# Altium schematic symbol library KipoAlt.SchLib: 644 symbols (part 3 of 4)
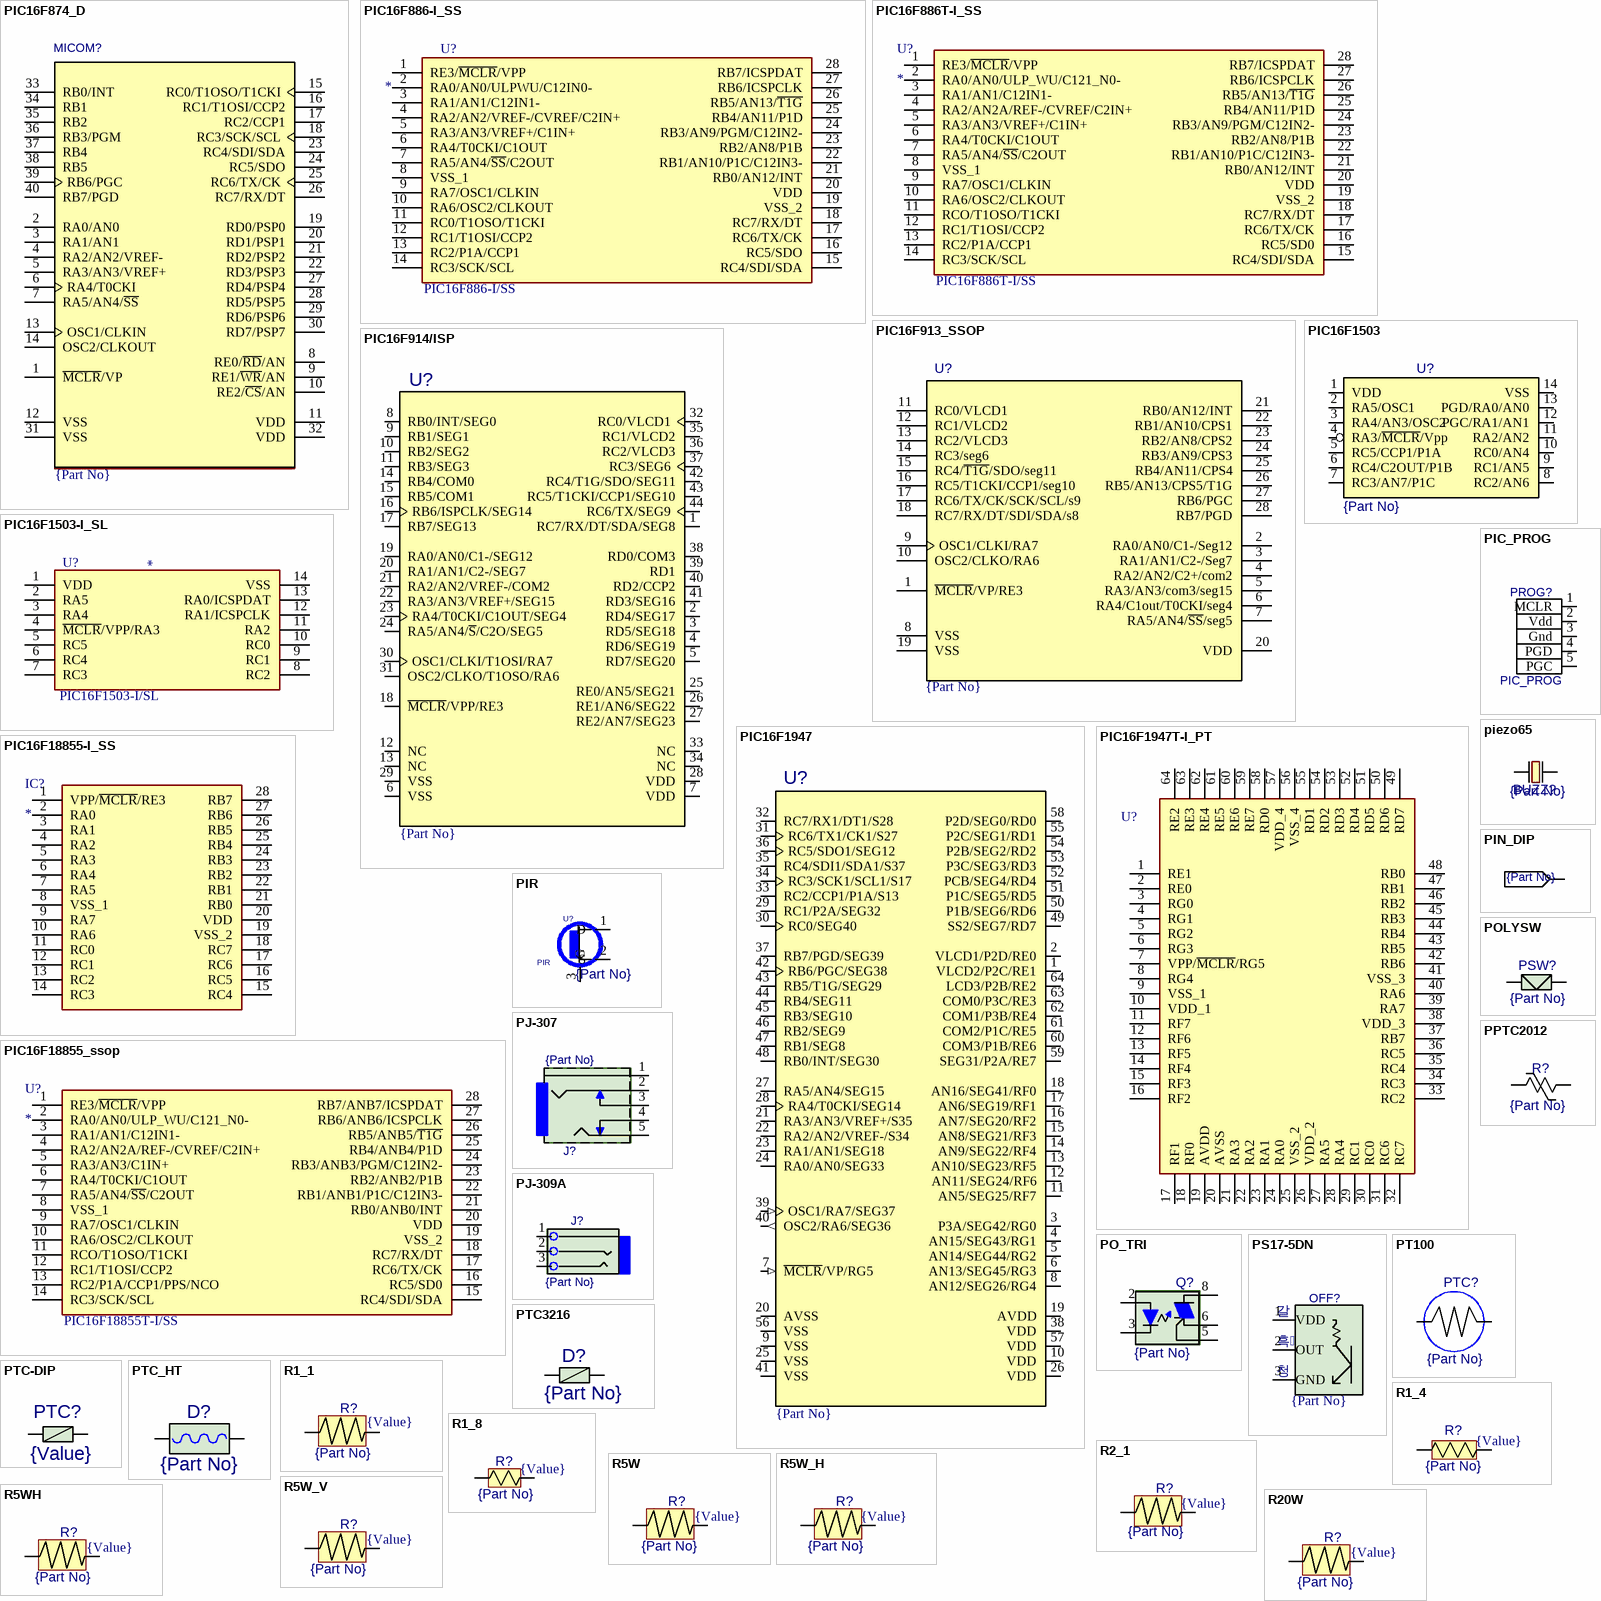
[diagram p20: symbols PIC16F874_D to R20W]

## PIC16F886-I_SS
designator U?  Part No.: PIC16F886-I/SS
Integrated Circuit; Manufacturer_Name: Microchip; Datasheet Link: https://eu.mouser.com/datasheet/2/268/40001291H-1066601.pdf; Height: 2mm; Mouser Part Number: 579-PIC16F886-I/SS; Mouser Price/Stock: https://www.mouser.co.uk/ProductDetail/Microchip-Technology/PIC16F886-I-SS?qs=tfKlksTaHW%2FCP4ez5eR96g%3D%3D; Arrow Part Number: PIC16F886-I/SS; Arrow Price/Stock: https://www.arrow.com/en/products/pic16f886-iss/microchip-technology?region=europe; Price: {Price}
footprint SSOP28
pins: 1 RE3/~{MCLR}/VPP, 2 RA0/AN0/ULPWU/C12IN0-, 3 RA1/AN1/C12IN1-, 4 RA2/AN2/VREF-/CVREF/C2IN+, 5 RA3/AN3/VREF+/C1IN+, 6 RA4/T0CKI/C1OUT, 7 RA5/AN4/~{SS}/C2OUT, 8 VSS_1, 9 RA7/OSC1/CLKIN, 10 RA6/OSC2/CLKOUT, 11 RC0/T1OSO/T1CKI, 12 RC1/T1OSI/CCP2, 13 RC2/P1A/CCP1, 14 RC3/SCK/SCL, 15 RC4/SDI/SDA, 16 RC5/SDO, 17 RC6/TX/CK, 18 RC7/RX/DT, 19 VSS_2, 20 VDD, 21 RB0/AN12/INT, 22 RB1/AN10/P1C/C12IN3-, 23 RB2/AN8/P1B, 24 RB3/AN9/PGM/C12IN2-, 25 RB4/AN11/P1D, 26 RB5/AN13/~{T1G}, 27 RB6/ICSPCLK, 28 RB7/ICSPDAT

## PIC16F886T-I_SS
designator U?  Part No.: PIC16F886T-I/SS
Integrated Circuit; Manufacturer_Name: Microchip; Datasheet Link: http://ww1.microchip.com/downloads/en/DeviceDoc/40001291H.pdf; Height: 2mm; Mouser Part Number: 579-PIC16F886T-I/SS; Mouser Price/Stock: https://www.mouser.co.uk/ProductDetail/Microchip-Technology/PIC16F886T-I-SS?qs=tfKlksTaHW%252BTLLXH%2Fb%2FN2g%3D%3D; Arrow Part Number: PIC16F886T-I/SS; Arrow Price/Stock: https://www.arrow.com/en/products/pic16f886t-iss/microchip-technology?region=nac; Price: {Price}
footprint SOP-28N
pins: 1 RE3/~{MCLR}/VPP, 2 RA0/AN0/ULP_WU/C121_N0-, 3 RA1/AN1/C12IN1-, 4 RA2/AN2A/REF-/CVREF/C2IN+, 5 RA3/AN3/VREF+/C1IN+, 6 RA4/T0CKI/C1OUT, 7 RA5/AN4/~{SS}/C2OUT, 8 VSS_1, 9 RA7/OSC1/CLKIN, 10 RA6/OSC2/CLKOUT, 11 RCO/T1OSO/T1CKI, 12 RC1/T1OSI/CCP2, 13 RC2/P1A/CCP1, 14 RC3/SCK/SCL, 15 RC4/SDI/SDA, 16 RC5/SD0, 17 RC6/TX/CK, 18 RC7/RX/DT, 19 VSS_2, 20 VDD, 21 RB0/AN12/INT, 22 RB1/AN10/P1C/C12IN3-, 23 RB2/AN8/P1B, 24 RB3/AN9/PGM/C12IN2-, 25 RB4/AN11/P1D, 26 RB5/AN13/~{T1G}, 27 RB6/ICSPCLK, 28 RB7/ICSPDAT

## PIC16F913_SSOP
designator U?  Part No.: {Part No}  (hidden comment: PIC16F913_SSOP)
Price: {Price}
footprint SSOP28
pins: 1 ~{MCLR}/VP/RE3, 2 RA0/AN0/C1-/Seg12, 3 RA1/AN1/C2-/Seg7, 4 RA2/AN2/C2+/com2, 5 RA3/AN3/com3/seg15, 6 RA4/C1out/T0CKI/seg4, 7 RA5/AN4/~{SS}/seg5, 8 VSS, 9 OSC1/CLKI/RA7, 10 OSC2/CLKO/RA6, 11 RC0/VLCD1, 12 RC1/VLCD2, 13 RC2/VLCD3, 14 RC3/seg6, 15 RC4/~{T1G}/SDO/seg11, 16 RC5/T1CKI/CCP1/seg10, 17 RC6/TX/CK/SCK/SCL/s9, 18 RC7/RX/DT/SDI/SDA/s8, 19 VSS, 20 VDD, 21 RB0/AN12/INT, 22 RB1/AN10/CPS1, 23 RB2/AN8/CPS2, 24 RB3/AN9/CPS3, 25 RB4/AN11/CPS4, 26 RB5/AN13/CPS5/T1G, 27 RB6/PGC, 28 RB7/PGD

## PIC16F914/ISP
designator U?  Part No.: {Part No}  (hidden comment: PIC16F914/ISP)
Price: {Price}
footprint TQFP44_PIC16F914/ISP(Primary)
pins: 1 RC7/RX/DT/SDA/SEG8, 2 RD4/SEG17, 3 RD5/SEG18, 4 RD6/SEG19, 5 RD7/SEG20, 6 VSS, 7 VDD, 8 RB0/INT/SEG0, 9 RB1/SEG1, 10 RB2/SEG2, 11 RB3/SEG3, 12 NC, 13 NC, 14 RB4/COM0, 15 RB5/COM1, 16 RB6/ISPCLK/SEG14, 17 RB7/SEG13, 18 ~{MCLR}/VPP/RE3, 19 RA0/AN0/C1-/SEG12, 20 RA1/AN1/C2-/SEG7, 21 RA2/AN2/VREF-/COM2, 22 RA3/AN3/VREF+/SEG15, 23 RA4/T0CKI/C1OUT/SEG4, 24 RA5/AN4/~{S}/C2O/SEG5, 25 RE0/AN5/SEG21, 26 RE1/AN6/SEG22, 27 RE2/AN7/SEG23, 28 VDD, 29 VSS, 30 OSC1/CLKI/T1OSI/RA7, 31 OSC2/CLKO/T1OSO/RA6, 32 RC0/VLCD1, 33 NC, 34 NC, 35 RC1/VLCD2, 36 RC2/VLCD3, 37 RC3/SEG6, 38 RD0/COM3, 39 RD1, 40 RD2/CCP2, 41 RD3/SEG16, 42 RC4/T1G/SDO/SEG11, 43 RC5/T1CKI/CCP1/SEG10, 44 RC6/TX/SEG9

## PIC16F1503
designator U?  Part No.: {Part No}  (hidden comment: PIC16F1503)
EPROM-Based 8-Bit CMOS Microcontroller; OriginalName: PIC16C54-10/SO; ComponentField6: T0CKI (pin 3) must be tied to VSS or VDD, if not in use, to reduce current consumption; ComponentField7: Published 8-Jun-2000.; Price: {Price}
footprint SO14A
pins: 1 VDD, 2 RA5/OSC1, 3 RA4/AN3/OSC2, 4 RA3/~{MCLR}/Vpp, 5 RC5/CCP1/P1A, 6 RC4/C2OUT/P1B, 7 RC3/AN7/P1C, 8 RC2/AN6, 9 RC1/AN5, 10 RC0/AN4, 11 RA2/AN2, 12 PGC/RA1/AN1, 13 PGD/RA0/AN0, 14 VSS

## PIC16F1503-I_SL
designator U?  Part No.: PIC16F1503-I/SL
EPROM-Based 8-Bit CMOS Microcontroller; Manufacturer_Name: Microchip; Datasheet Link: https://componentsearchengine.com/Datasheets/2/PIC16F1503-I_SL.pdf; Height: 1.75mm; Mouser Price/Stock: https://www.mouser.co.uk/ProductDetail/Microchip-Technology/PIC16F1503-I-SL?qs=OiTXcupis6Ht3pf2gHgx7Q%3D%3D; Arrow Part Number: PIC16F1503-I/SL; Mouser Part Number: 579-PIC16F1503-I/SL; Price: *
footprint SOIC127P600X175-14N
pins: 1 VDD, 2 RA5, 3 RA4, 4 ~{MCLR}/VPP/RA3, 5 RC5, 6 RC4, 7 RC3, 8 RC2, 9 RC1, 10 RC0, 11 RA2, 12 RA1/ICSPCLK, 13 RA0/ICSPDAT, 14 VSS

## PIC16F1947
designator U?  Part No.: {Part No}  (hidden comment: PIC16F1947)
MCU 8-bit PIC RISC 28KB Flash 2.5V/3.3V/5V Automotive 64-Pin TQFP T/R; PackageDocument: DS00049W_2003; ComponentLink1DescBC: Manufacturer Link; ComponentLink2DescA4: Datasheet; ComponentLink3DescAC: Packaging Specification; Published: 11-Oct-2004; LatestRevisionDate: 4-Mar-2005; DatasheetDocument: DS39541A_2001; PackageReference: TQFP-64; Publisher: Altium Limited; Code_JEDEC: MS-026; Code_IPC: SQFP10X10-64; LatestRevisionNote: Stylized 3D Model Added.; ComponentLink1URL: http://www.microchip.com/index.asp; ComponentLink2URL: http://ww1.microchip.com/downloads/en/DeviceDoc/39541a.pdf; ComponentLink3URL: http://ww1.microchip.com/downloads/en/PackagingSpec/00049AD.pdf; Price: {Price}
footprint TQFP-64_PIC16F1947(Primary)
pins: 1 VLCD2/P2C/RE1 (io), 2 VLCD1/P2D/RE0 (io), 3 P3A/SEG42/RG0 (io), 4 AN15/SEG43/RG1 (io), 5 AN14/SEG44/RG2 (io), 6 AN13/SEG45/RG3 (io), 7 ~{MCLR}/VP/RG5 (in), 8 AN12/SEG26/RG4 (io), 9 VSS (power), 10 VDD (power), 11 AN5/SEG25/RF7 (io), 12 AN11/SEG24/RF6 (io), 13 AN10/SEG23/RF5 (io), 14 AN9/SEG22/RF4 (io), 15 AN8/SEG21/RF3 (io), 16 AN7/SEG20/RF2 (io), 17 AN6/SEG19/RF1 (io), 18 AN16/SEG41/RF0 (io), 19 AVDD (power), 20 AVSS (power), 21 RA3/AN3/VREF+/S35 (io), 22 RA2/AN2/VREF-/S34 (io), 23 RA1/AN1/SEG18 (io), 24 RA0/AN0/SEG33 (io), 25 VSS (power), 26 VDD (power), 27 RA5/AN4/SEG15 (io), 28 RA4/T0CKI/SEG14 (io), 29 RC1/P2A/SEG32 (io), 30 RC0/SEG40 (io), 31 RC6/TX1/CK1/S27 (io), 32 RC7/RX1/DT1/S28 (io), 33 RC2/CCP1/P1A/S13 (io), 34 RC3/SCK1/SCL1/S17 (io), 35 RC4/SDI1/SDA1/S37 (io), 36 RC5/SDO1/SEG12 (io), 37 RB7/PGD/SEG39 (io), 38 VDD (power), 39 OSC1/RA7/SEG37 (in), 40 OSC2/RA6/SEG36 (out), 41 VSS (power), 42 RB6/PGC/SEG38 (io), 43 RB5/T1G/SEG29 (io), 44 RB4/SEG11 (io), 45 RB3/SEG10 (io), 46 RB2/SEG9 (io), 47 RB1/SEG8 (io), 48 RB0/INT/SEG30 (io), 49 SS2/SEG7/RD7 (io), 50 P1B/SEG6/RD6 (io), 51 P1C/SEG5/RD5 (io), 52 PCB/SEG4/RD4 (io), 53 P3C/SEG3/RD3 (io), 54 P2B/SEG2/RD2 (io), 55 P2C/SEG1/RD1 (io), 56 VSS (power), 57 VDD (power), 58 P2D/SEG0/RD0 (io), 59 SEG31/P2A/RE7 (io), 60 COM3/P1B/RE6 (io), 61 COM2/P1C/RE5 (io), 62 COM1/P3B/RE4 (io), 63 COM0/P3C/RE3 (io), 64 LCD3/P2B/RE2 (io)

## PIC16F1947T-I_PT
designator U?  Part No.: PIC16F1947T-I/PT  (hidden comment: PIC16F1947T-I_PT)
MCU 8-bit PIC RISC 28KB Flash 2.5V/3.3V/5V Automotive 64-Pin TQFP T/R; Manufacturer_Name: Microchip; Geometry.Height: 1.2mm; Mouser Part Number: 579-PIC16F1947T-I/PT; Mouser Price/Stock: https://www.mouser.co.uk/ProductDetail/Microchip-Technology-Atmel/PIC16F1947T-I-PT?qs=vpV3rcoeaPNrL0BdTYfCzQ%3D%3D; Arrow Part Number: PIC16F1947T-I/PT; Arrow Price/Stock: https://www.arrow.com/en/products/pic16f1947t-ipt/microchip-technology; Datasheet Link: https://ww1.microchip.com/downloads/aemDocuments/documents/OTH/ProductDocuments/DataSheets/40001414E.pdf; Price: {Price}
footprint QFP50P1200X1200X120-64N
pins: 1 RE1, 2 RE0, 3 RG0, 4 RG1, 5 RG2, 6 RG3, 7 VPP/~{MCLR}/RG5, 8 RG4, 9 VSS_1, 10 VDD_1, 11 RF7, 12 RF6, 13 RF5, 14 RF4, 15 RF3, 16 RF2, 17 RF1, 18 RF0, 19 AVDD, 20 AVSS, 21 RA3, 22 RA2, 23 RA1, 24 RA0, 25 VSS_2, 26 VDD_2, 27 RA5, 28 RA4, 29 RC1, 30 RC0, 31 RC6, 32 RC7, 33 RC2, 34 RC3, 35 RC4, 36 RC5, 37 RB7, 38 VDD_3, 39 RA7, 40 RA6, 41 VSS_3, 42 RB6, 43 RB5, 44 RB4, 45 RB3, 46 RB2, 47 RB1, 48 RB0, 49 RD7, 50 RD6, 51 RD5, 52 RD4, 53 RD3, 54 RD2, 55 RD1, 56 VSS_4, 57 VDD_4, 58 RD0, 59 RE7, 60 RE6, 61 RE5, 62 RE4, 63 RE3, 64 RE2

## PIC16F18855-I_SS
designator IC?
Integrated Circuit; Manufacturer_Name: Microchip; Manufacturer_Part_Number: PIC16F18855-I/SS; Datasheet Link: http://ww1.microchip.com/downloads/en/DeviceDoc/400001802D.pdf; Height: 2mm; Mouser Part Number: 579-PIC16F18855-I/SS; Mouser Price/Stock: https://www.mouser.co.uk/ProductDetail/Microchip-Technology/PIC16F18855-I-SS?qs=BA62vJVifGp1I1ZOvi3v8w%3D%3D; Arrow Part Number: PIC16F18855-I/SS; Arrow Price/Stock: https://www.arrow.com/en/products/pic16f18855-iss/microchip-technology?utm_currency=USD&region=nac
footprint SOP65P780X200-28N
pins: 1 VPP/~{MCLR}/RE3, 2 RA0, 3 RA1, 4 RA2, 5 RA3, 6 RA4, 7 RA5, 8 VSS_1, 9 RA7, 10 RA6, 11 RC0, 12 RC1, 13 RC2, 14 RC3, 15 RC4, 16 RC5, 17 RC6, 18 RC7, 19 VSS_2, 20 VDD, 21 RB0, 22 RB1, 23 RB2, 24 RB3, 25 RB4, 26 RB5, 27 RB6, 28 RB7

## PIC16F18855_ssop
designator U?  Part No.: PIC16F18855T-I/SS
Integrated Circuit; Manufacturer_Name: Microchip; Datasheet Link: http://ww1.microchip.com/downloads/en/DeviceDoc/40001291H.pdf; Height: 2mm; Mouser Part Number: 579-PIC16F18855T-I/SS; Mouser Price/Stock: https://www.mouser.co.uk/ProductDetail/Microchip-Technology/PIC16F886T-I-SS?qs=tfKlksTaHW%252BTLLXH%2Fb%2FN2g%3D%3D; Arrow Part Number: PIC16F886T-I/SS; Arrow Price/Stock: https://www.arrow.com/en/products/pic16f886t-iss/microchip-technology?region=nac; Price: {Price}
footprint SOP-28N
pins: 1 RE3/~{MCLR}/VPP, 2 RA0/AN0/ULP_WU/C121_N0-, 3 RA1/AN1/C12IN1-, 4 RA2/AN2A/REF-/CVREF/C2IN+, 5 RA3/AN3/C1IN+, 6 RA4/T0CKI/C1OUT, 7 RA5/AN4/~{SS}/C2OUT, 8 VSS_1, 9 RA7/OSC1/CLKIN, 10 RA6/OSC2/CLKOUT, 11 RCO/T1OSO/T1CKI, 12 RC1/T1OSI/CCP2, 13 RC2/P1A/CCP1/PPS/NCO, 14 RC3/SCK/SCL, 15 RC4/SDI/SDA, 16 RC5/SD0, 17 RC6/TX/CK, 18 RC7/RX/DT, 19 VSS_2, 20 VDD, 21 RB0/ANB0/INT, 22 RB1/ANB1/P1C/C12IN3-, 23 RB2/ANB2/P1B, 24 RB3/ANB3/PGM/C12IN2-, 25 RB4/ANB4/P1D, 26 RB5/ANB5/~{T1G}, 27 RB6/ANB6/ICSPCLK, 28 RB7/ANB7/ICSPDAT

## PIC_PROG
designator PROG?
Part No.: *; Price: {Price}
footprint PIC_PROG
pins: 1 MCLR, 2 Vdd, 3 Gnd, 4 PGD, 5 PGC

## piezo65
designator BUZZ?, comment Part No.: {Part No}  (hidden comment: BUZZ)
Price: {Price}
footprint PIAZO_65
pins: 1, 2

## PIN_DIP
designator PIN?  Part No.: {Part No}  (hidden comment: *)
Price: {Price}; Parameter 1: *
footprint PIN_DIP
pins: 1

## PIR
designator U?  Part No.: {Part No}
Price: {Price}
footprint PIR
pins: 1 D, 2 S, 3 G

## PJ-307
designator J?  Part No.: {Part No}  (hidden comment: PJ-307)
Price: {Price}
footprint PJ-307
pins: 1, 2, 3, 4, 5

## PJ-309A
designator J?  Part No.: {Part No}  (hidden comment: PJ-309A)
Price: {Price}
footprint PJ-309A
pins: 1, 2, 3

## PO_TRI
designator Q?  Part No.: {Part No}  (hidden comment: PO_TRI)
Price: {Price}
footprint DIP8
pins: 1 hidden, 2 A, 3 K, 4 hidden, 5 G, 6 T1, 7 hidden, 8 T2

## POLYSW
designator PSW?  Part No.: {Part No}  (hidden comment: POLYSW)
Price: {Price}
footprint POLY5MM
pins: 1, 2

## PPTC2012
designator R?  Part No.: {Part No}  (hidden comment: PPTC2012)
Price: {Price}
footprint RC2012
pins: 1, 2

## PS17-5DN
designator OFF?  Part No.: {Part No}  (hidden comment: PS17-5DN)
Price: {Price}
pins: 1 VDD, 2 OUT, 3 GND
text: 갈; 흑; 청

## PT100
designator PTC?  Part No.: {Part No}  (hidden comment: PT100)
Price: {Price}
footprint PT100
pins: 1, 2

## PTC3216
designator D?  Part No.: {Part No}  (hidden comment: PTC3216)
Price: {Price}
footprint RC3216M
pins: 1, 2

## PTC-DIP
designator PTC?  Part No.: {Value}  (hidden comment: PTC-DIP)
Price: {Price}
footprint TNR
pins: 1, 2

## PTC_HT
designator D?  Part No.: {Part No}  (hidden comment: PTC_HT)
Price: {Price}
footprint RC3216M
pins: 1, 2

## R1_1
designator R?  규격: {Value}  Part No.: {Part No}  (hidden comment: R1_1)
Price: {Price}
footprint R600
pins: 1, 2

## R1_4
designator R?  규격: {Value}  Part No.: {Part No}  (hidden comment: R1_4)
Price: {Price}
footprint R400
pins: 1, 2

## R1_8
designator R?  규격: {Value}  Part No.: {Part No}  (hidden comment: R1_8)
Price: {Price}
footprint R300
pins: 1, 2

## R2_1
designator R?  규격: {Value}  Part No.: {Part No}  (hidden comment: R2_1)
Price: {Price}
footprint R600
pins: 1, 2

## R5W
designator R?  규격: {Value}  Part No.: {Part No}  (hidden comment: R5W)
Price: {Price}
footprint R5W
pins: 1, 2

## R5W_H
designator R?  규격: {Value}  Part No.: {Part No}  (hidden comment: R5W_H)
Price: {Price}
footprint R5W_H
pins: 1, 2

## R5W_V
designator R?  규격: {Value}  Part No.: {Part No}  (hidden comment: R5W_V)
Price: {Price}
footprint R5W_V
pins: 1, 2

## R5WH
designator R?  규격: {Value}  Part No.: {Part No}  (hidden comment: R5WH)
Price: {Price}
footprint R5W_H
pins: 1, 2

## R20W
designator R?  규격: {Value}  Part No.: {Part No}  (hidden comment: R20W)
Price: {Price}
footprint R20W_Js
footprint R20W_A
pins: 1, 2

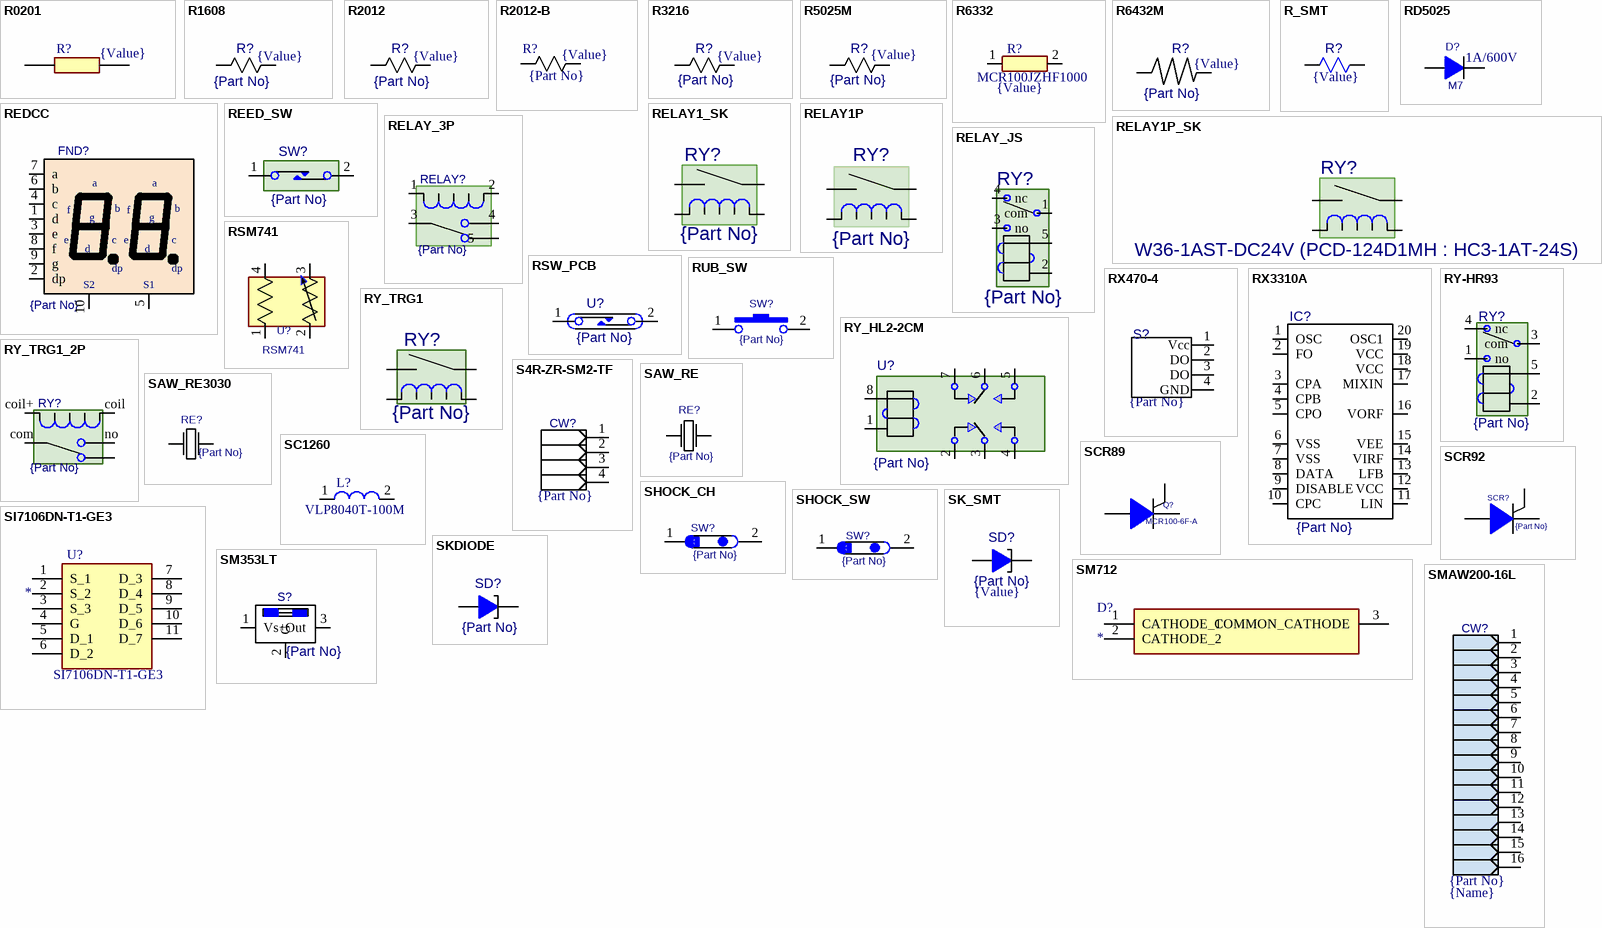
[diagram p13: symbols R0201 to SMAW200-16L]

## R0201
designator R?, comment 규격: {Value}  (hidden comment: CPF0201D100RE1)
100 0201 Thin Film Surface Mount Fixed Resistor +/-0.5% 0.031W CPF0201D100RE1; Manufacturer_Name: TE Connectivity; Geometry.Height: 0.28mm; Part No.: CPF0201D100RE1; Mouser Part Number: 279-CPF0201D100RE1; Mouser Price/Stock: https://www.mouser.co.uk/ProductDetail/TE-Connectivity-Holsworthy/CPF0201D100RE1?qs=gt1LBUVyoHlmoWock10t3Q%3D%3D; Arrow Part Number: CPF0201D100RE1; Arrow Price/Stock: https://www.arrow.com/en/products/cpf0201d100re1/te-connectivity?region=nac; Datasheet Link: http://www.te.com/commerce/DocumentDelivery/DDEController?Action=showdoc&DocId=Data+Sheet%7F1773200-1%7FA%7Fpdf%7FEnglish%7FENG_DS_1773200-1_A.pdf%7F4-2176215-6; Price: {Price}
footprint RESC0603X28N
pins: 1, 2

## R1608
designator R?  규격: {Value}  Part No.: {Part No}  (hidden comment: R1608)
Price: {Price}
footprint R1608
footprint RESC1608X55N
pins: 1, 2

## R2012
designator R?  규격: {Value}  Part No.: {Part No}  (hidden comment: R2012)
Price: 2
footprint R2012
pins: 1, 2

## R2012-B
designator R?, comment 규격: {Value}  Part No.: {Part No}  (hidden comment: R2012)
Price: {Price}
footprint R2012
pins: 1, 2

## R3216
designator R?  규격: {Value}  Part No.: {Part No}  (hidden comment: R3216)
Price: {Price}
footprint R3216
pins: 1, 2

## R5025M
designator R?  규격: {Value}  Part No.: {Part No}  (hidden comment: R5025M)
Price: {Price}
footprint R5025
pins: 1, 2

## R6332
designator R?  규격: {Value}  Part No.: MCR100JZHF1000  (hidden comment: R6332)
Resistor; Manufacturer_Name: ROHM Semiconductor; Datasheet Link: https://datasheet.datasheetarchive.com/originals/distributors/Datasheets_SAMA/dbb208b8b0fbd2aeb0eafa67412df4d0.pdf; Height: 0.7mm; Price: {Price}
footprint RESC6332X70N
pins: 1, 2

## R6432M
designator R?  규격: {Value}  Part No.: {Part No}  (hidden comment: R6432M)
Price: {Price}
footprint R6432
pins: 1, 2

## R_SMT
designator R?, comment value {Value}  (hidden comment: CS)
Part No.: {Part No}; Price: {Price}
footprint R1608N
footprint R2012
footprint R3216
footprint R5025
footprint R6432
footprint RESC1608X55N
footprint RESC2012X65N
footprint RESC6332X70N
pins: 1, 2

## RD5025
designator D?  규격: 1A/600V  Part No.: M7  (hidden comment: RD5025)
Price: 18
footprint D5025
pins: 1 A, 2 K

## REDCC
designator FND?  Part No.: {Part No}  (hidden comment: REDCC)
Common Cathhode Seven-Segment Display, Right Hand Decimal; ComponentField6: Published 8-Jun-2000; OriginalName: REDCC; Price: {Price}
simulation model REDCC
footprint 7SEG2_K_CM
pins: 1 d, 2 dp, 3 e, 4 c, 5 S1, 6 b, 7 a, 8 f, 9 g, 10 S2

## REED_SW
designator SW?  Part No.: {Part No}  (hidden comment: REED_SW)
Price: {Price}
footprint RSW_PCB
pins: 1, 2

## RELAY1_SK
designator RY?  Part No.: {Part No}  (hidden comment: RELAY1_SK)
Price: {Price}
footprint RELAY1P_A
pins: 1, 2, 3, 4

## RELAY1P
designator RY?  Part No.: {Part No}  (hidden comment: RELAY1P)
Price: {Price}
footprint RELAY1P
pins: 1, 2, 3, 4

## RELAY1P_SK
designator RY?  Part No.: W36-1AST-DC24V (PCD-124D1MH : HC3-1AT-24S)  (hidden comment: RELAY1P_SK)
Price: 750
footprint RELAY1P_SK
pins: 1, 2, 3, 4

## RELAY_3P
designator RELAY?  Part No.: {Part No}  (hidden comment: RELAY_3P)
Price: {Price}
footprint SIP5
pins: 1, 2, 3, 4, 5

## RELAY_JS
designator RY?, comment Part No.: {Part No}  (hidden comment: RELAY_JS1)
Price: {Price}
footprint RELAY_JS
pins: 1 com, 2, 3 no, 4 nc, 5

## RSM741
designator U?  Part No.: RSM741
Price: {Price}
footprint MQ-4
pins: 1 H-, 2 S-, 3 S+, 4 H+

## RSW_PCB
designator U?  Part No.: {Part No}  (hidden comment: RSW_PCB)
Price: {Price}
footprint RSW_PCB
pins: 1, 2

## RUB_SW
designator SW?  Part No.: {Part No}  (hidden comment: RUB_SW)
Price: {Price}
footprint RUB_SW
pins: 1, 2

## RX470-4
designator S?  Part No.: {Part No}  (hidden comment: RX470-4)
Price: {Price}
footprint RX470-4
pins: 1 Vcc, 2 DO, 3 DO, 4 GND

## RX3310A
designator IC?  Part No.: {Part No}  (hidden comment: RX3310A)
Gain Controlled Dual-Conversion Quadrature Modulator; OriginalName: RF2413; Price: {Price}
footprint SSO-G20/Y1.45
pins: 1 OSC, 2 FO, 3 CPA, 4 CPB, 5 CPO, 6 VSS, 7 VSS, 8 DATA, 9 DISABLE, 10 CPC, 11 LIN, 12 VCC, 13 LFB, 14 VIRF, 15 VEE, 16 VORF, 17 MIXIN, 18 VCC, 19 VCC, 20 OSC1

## RY-HR93
designator RY?  Part No.: {Part No}  (hidden comment: RY-HR93)
Price: {Price}
footprint HR93
pins: 1 no, 2, 3 com, 4 nc, 5, 6 nc hidden

## RY_HL2-2CM
designator U?, comment Part No.: {Part No}  (hidden comment: RY_2P)
Price: {Price}
footprint HL2-2CM
pins: 1 coil+, 2 nc, 3 com1, 4 no, 5 no, 6 com2, 7 nc, 8 coil-

## RY_TRG1
designator RY?  Part No.: {Part No}  (hidden comment: RY_TRG1)
Price: {Price}
footprint TRG1
pins: 1, 2, 3, 4

## RY_TRG1_2P
designator RY?  Part No.: {Part No}  (hidden comment: RY_TRG1_2P)
Price: {Price}
footprint TRG1_2P_RY_TRG1_2P(Primary)
pins: coil, coil+, com, nc, no

## S4R-ZR-SM2-TF
designator CW?  Part No.: {Part No}  (hidden comment: S4R-ZR-SM2-TF)
Price: {Price}
footprint S4R-ZR-SM2-TF
pins: 1, 2, 3, 4

## SAW_RE
designator RE?  Part No.: {Part No}  (hidden comment: SAW_RE)
Price: {Price}
footprint S5050
pins: 1 hidden, 2, 3 hidden, 4 hidden, 5 hidden, 6, 7 hidden, 8 hidden

## SAW_RE3030
designator RE?  Part No.: {Part No}  (hidden comment: SAW_RE3030)
Price: {Price}
footprint S3030
pins: 1 hidden, 2, 3 hidden, 4 hidden, 5 hidden, 6

## SC1260
designator L?  Part No.: VLP8040T-100M  (hidden comment: *)
Inductor; Manufacturer_Name: TDK; Mouser Part Number: 810-VLP8040T-100M; Mouser Price/Stock: https://www.mouser.co.uk/ProductDetail/TDK/VLP8040T-100M?qs=uxmvvYJjMIsKO4pNbUQWxA%3D%3D; Arrow Price/Stock: https://www.arrow.com/en/products/vlp8040t-100m/tdk; Datasheet Link: https://componentsearchengine.com/Datasheets/2/VLP8040T-100M.pdf; Height: 4mm; Manufacturer_Part_Number: VLP8040T-100M; Price: {Price}
footprint SC1260S
pins: 1, 2

## SCR89
designator Q?  (value not drawn)
MCR100-6F-A; Price: 52; Part No.: MCR100-6F-A
footprint SOT-89
pins: 1 K, 2 A, 3 G

## SCR92
designator SCR?  Part No.: {Part No}  (hidden comment: SCR92)
Price: {Price}
footprint TO92
pins: 1 K, 2 G, 3 A

## SHOCK_CH
designator SW?  Part No.: {Part No}  (hidden comment: SHOCK_CH)
Price: {Price}
footprint CHOCK_CH
pins: 1, 2

## SHOCK_SW
designator SW?  Part No.: {Part No}  (hidden comment: SHOCK_SW)
Price: {Price}
footprint ASLS2
pins: 1, 2

## SI7106DN-T1-GE3
designator U?  Part No.: SI7106DN-T1-GE3
MOSFET (N-Channel); Manufacturer_Name: Vishay; Datasheet Link: https://www.arrow.com/en/products/si7106dn-t1-ge3/vishay; Height: 1.12mm; Mouser Part Number: 781-SI7106DN-T1-GE3; Mouser Price/Stock: https://www.mouser.co.uk/ProductDetail/Vishay-Semiconductors/SI7106DN-T1-GE3?qs=tWM4QuTcS4UXbO9qkz0xcQ%3D%3D; Arrow Part Number: SI7106DN-T1-GE3; Arrow Price/Stock: https://www.arrow.com/en/products/si7106dn-t1-ge3/vishay?region=nac; Price: {Price}
footprint SIS862DNT1GE3
pins: 1 S_1, 2 S_2, 3 S_3, 4 G, 5 D_1, 6 D_2, 7 D_3, 8 D_4, 9 D_5, 10 D_6, 11 D_7

## SK_SMT
designator SD?  규격: {Value}  Part No.: {Part No}  (hidden comment: SK_SMT)
Price: {Price}
footprint D5025
pins: 1, 2

## SKDIODE
designator SD?  Part No.: {Part No}  (hidden comment: SKDIODE)
Price: {Price}
footprint DGRASS
pins: 1, 2

## SM353LT
designator S?  Part No.: {Part No}  (hidden comment: SM353LT)
Price: {Price}
footprint SOT-23
pins: 1 Vs+, 2 G, 3 Out

## SM712
designator D?
TVS Diode (Bi-directional); Manufacturer_Name: DOWO; Manufacturer_Part_Number: SM712; Datasheet Link: https://datasheet.lcsc.com/szlcsc/DOWO-SM712_C293966.pdf; Height: 1.15mm
footprint SOT95P240X115-3N
pins: 1 CATHODE_1, 2 CATHODE_2, 3 COMMON_CATHODE

## SMAW200-16L
designator CW?  Name: {Name}  Part No.: {Part No}  (hidden comment: SMAW200-16L)
Price: {Price}
footprint SMW200-16L
pins: 1, 2, 3, 4, 5, 6, 7, 8, 9, 10, 11, 12, 13, 14, 15, 16

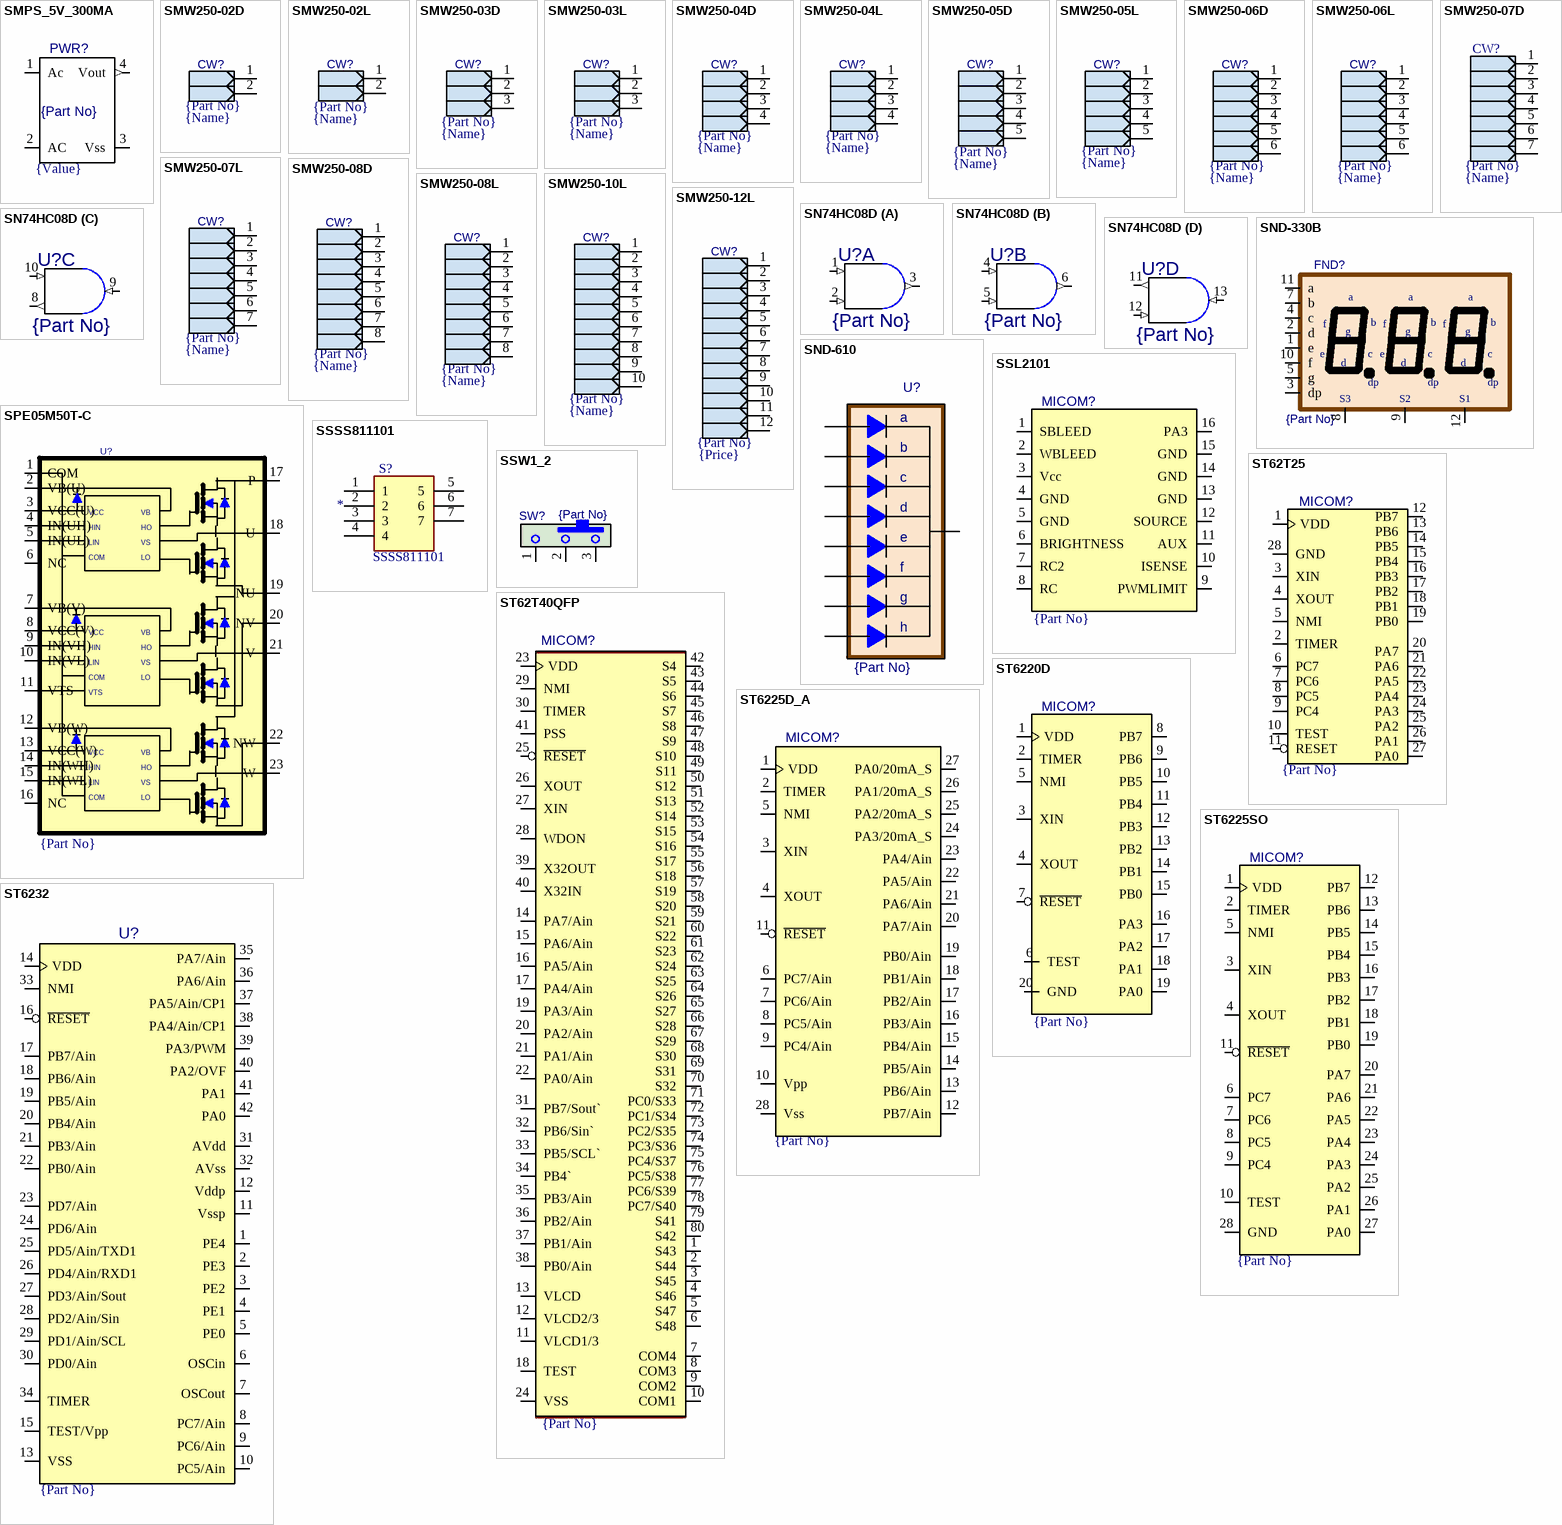
[diagram p14: symbols SMPS_5V_300MA to ST6232]

## SMPS_5V_300MA
designator PWR?  규격: {Value}  Part No.: {Part No}  (hidden comment: SMPS_5V_300MA)
Humidity Sensor; OriginalName: PIC16C54-10/SO; ComponentField7: Published 17-Feb-2005; ComponentField6: *; Price: {Price}
footprint SMPS_5V_300MA
pins: 1 Ac (power), 2 AC, 3 Vss (power), 4 Vout (out)

## SMW250-02D
designator CW?  Name: {Name}  Part No.: {Part No}  (hidden comment: SMW250-02D)
Price: {Price}
footprint SMW250-02D
pins: 1, 2

## SMW250-02L
designator CW?  Name: {Name}  Part No.: {Part No}  (hidden comment: SMW250-02L)
Price: {Price}
footprint SMW250-02L
pins: 1, 2

## SMW250-03D
designator CW?  Name: {Name}  Part No.: {Part No}  (hidden comment: SMW250-03D)
Price: {Price}
footprint SMW250-03D
pins: 1, 2, 3

## SMW250-03L
designator CW?  Name: {Name}  Part No.: {Part No}  (hidden comment: SMW250-03L)
Price: {Price}
footprint SMW250-03L
pins: 1, 2, 3

## SMW250-04D
designator CW?  Name: {Name}  Part No.: {Part No}  (hidden comment: SMW250-04D)
Price: {Price}
footprint SMW250-04D
pins: 1, 2, 3, 4

## SMW250-04L
designator CW?  Name: {Name}  Part No.: {Part No}  (hidden comment: SMW250-04L)
Price: {Price}
footprint SMW250-04L
pins: 1, 2, 3, 4

## SMW250-05D
designator CW?  Name: {Name}  Part No.: {Part No}  (hidden comment: SMW250-05D)
Price: {Price}
footprint SMW250-05D
pins: 1, 2, 3, 4, 5

## SMW250-05L
designator CW?  Name: {Name}  Part No.: {Part No}  (hidden comment: SMW250-05L)
Price: {Price}
footprint SMW250-05L
pins: 1, 2, 3, 4, 5

## SMW250-06D
designator CW?  Name: {Name}  Part No.: {Part No}  (hidden comment: SMW250-06D)
Price: {Price}
footprint SMW250-06D
pins: 1, 2, 3, 4, 5, 6

## SMW250-06L
designator CW?  Name: {Name}  Part No.: {Part No}  (hidden comment: SMW250-06L)
Price{Price}: *
footprint SMW250-06L
pins: 1, 2, 3, 4, 5, 6

## SMW250-07D
designator CW?  Name: {Name}  Part No.: {Part No}  (hidden comment: *)
Price: {Price}
footprint SMW250-07D
pins: 1 hidden, 1, 2 hidden, 2, 3 hidden, 3, 4 hidden, 4, 5 hidden, 5, 6 hidden, 6, 7 hidden, 7

## SMW250-07L
designator CW?  Name: {Name}  Part No.: {Part No}  (hidden comment: SMW250-07L)
Price: {Price}
footprint SMW250-07L
pins: 1, 2, 3, 4, 5, 6, 7

## SMW250-08D
designator CW?  Name: {Name}  Part No.: {Part No}  (hidden comment: SMW250-08D)
Price: {Price}
footprint SMW250-08D
pins: 1, 2, 3, 4, 5, 6, 7, 8

## SMW250-08L
designator CW?  Name: {Name}  Part No.: {Part No}  (hidden comment: SMW250-08L)
Price: {Price}
footprint SMW250-08L
pins: 1, 2, 3, 4, 5, 6, 7, 8

## SMW250-10L
designator CW?  Name: {Name}  Part No.: {Part No}  (hidden comment: SMW250-10L)
Price: {Price}
footprint SMW250-10L
pins: 1, 2, 3, 4, 5, 6, 7, 8, 9, 10

## SMW250-12L
designator CW?  Price: {Price}  Part No.: {Part No}  (hidden comment: SMW250-12L)
Name: {Name}
footprint SMW250-12L
pins: 1, 2, 3, 4, 5, 6, 7, 8, 9, 10, 11, 12

## SN74HC08D
designator U?  Part No.: {Part No}  (hidden comment: SN74HC08D)
Quadruple 2-Input Positive-AND Gate; OriginalName: SN74AC08D; ComponentField1: Power pins are hidden; ComponentField2: Published 8-Jun-2000; Price: {Price}
footprint SO-G14/G3.3
pins on every part: 7 GND (power) hidden, 14 VCC (power) hidden
part A pins: 1 A (in), 2 B (in), 3 Y (out)
part B pins: 4 A (in), 5 B (in), 6 Y (out)
part C pins: 8 Y (out), 9 A (in), 10 B (in)
part D pins: 11 Y (out), 12 A (in), 13 B (in)

## SND-330B
designator FND?  Part No.: {Part No}  (hidden comment: SND-330B)
Price: {Price}
footprint FND_SND330B (Footprint not found)
pins: 1 e, 2 d, 3 dp, 4 c, 5 g, 6 hidden, 7 b, 8 S3, 9 S2, 10 f, 11 a, 12 S1

## SND-610
designator U?  Part No.: {Part No}  (hidden comment: *)
Price: {Price}
footprint SND-610
pins: 1, 2, 3, 4, 5, 6, 7, 8, 9, 10 hidden
text: a; b; c; d; e; f; g; h

## SPE05M50T-C
designator U?  Part No.: {Part No}  (hidden comment: SPE05M50T-C)
Price: {Price}
footprint SOP23-FP
pins: 1 COM, 2 VB(U), 3 VCC(U), 4 IN(UH), 5 IN(UL), 6 NC, 7 VB(V), 8 VCC(V), 9 IN(VH), 10 IN(VL), 11 VTS, 12 VB(W), 13 VCC(W), 14 IN(WH), 15 IN(WL), 16 NC, 17 P, 18 U, 19 NU, 20 NV, 21 V, 22 NW, 23 W
text: VCC; VB; HIN; HO; LIN; VS; LO

## SSL2101
designator MICOM?  Part No.: {Part No}  (hidden comment: SSL2101)
Price: {Price}
footprint SOL16
pins: 1 SBLEED, 2 WBLEED, 3 Vcc, 4 GND, 5 GND, 6 BRIGHTNESS, 7 RC2, 8 RC, 9 PWMLIMIT, 10 ISENSE, 11 AUX, 12 SOURCE, 13 GND, 14 GND, 15 GND, 16 PA3

## SSSS811101
designator S?  Part No.: SSSS811101
Switch; Manufacturer_Name: ALPS Electric; Height: 1.6mm; Mouser Part Number: 688-SSSS811101; Mouser Price/Stock: https://www.mouser.co.uk/ProductDetail/Alps-Alpine/SSSS811101?qs=m0BA540hBPe%2FELmLcs%2FcCA%3D%3D; Arrow Part Number: SSSS811101; Arrow Price/Stock: https://www.arrow.com/en/products/ssss811101/alps-electric; Price: {Price}; Name: *
footprint SSSS811101
pins: 1, 2, 3, 4, 5, 6, 7

## SSW1_2
designator SW?  Part No.: {Part No}  (hidden comment: SSW1_2)
Price: {Price}
footprint SW1_2
pins: 1, 2, 3

## ST62T25
designator MICOM?  Part No.: {Part No}  (hidden comment: ST62T25)
Price: {Price}
footprint DIP28
pins: 1 VDD, 2 TIMER, 3 XIN, 4 XOUT, 5 NMI, 6 PC7, 7 PC6, 8 PC5, 9 PC4, 10 TEST, 11 RESET, 12 PB7, 13 PB6, 14 PB5, 15 PB4, 16 PB3, 17 PB2, 18 PB1, 19 PB0, 20 PA7, 21 PA6, 22 PA5, 23 PA4, 24 PA3, 25 PA2, 26 PA1, 27 PA0, 28 GND

## ST62T40QFP
designator MICOM?  Part No.: {Part No}  (hidden comment: ST62T40QFP)
Price: {Price}
footprint QFP80
pins: 1 S43, 2 S44, 3 S45, 4 S46, 5 S47, 6 S48, 7 COM4, 8 COM3, 9 COM2, 10 COM1, 11 VLCD1/3, 12 VLCD2/3, 13 VLCD, 14 PA7/Ain, 15 PA6/Ain, 16 PA5/Ain, 17 PA4/Ain, 18 TEST, 19 PA3/Ain, 20 PA2/Ain, 21 PA1/Ain, 22 PA0/Ain, 23 VDD, 24 VSS, 25 ~{RESET}, 26 XOUT, 27 XIN, 28 WDON, 29 NMI, 30 TIMER, 31 PB7/Sout`, 32 PB6/Sin`, 33 PB5/SCL`, 34 PB4`, 35 PB3/Ain, 36 PB2/Ain, 37 PB1/Ain, 38 PB0/Ain, 39 X32OUT, 40 X32IN, 41 PSS, 42 S4, 43 S5, 44 S6, 45 S7, 46 S8, 47 S9, 48 S10, 49 S11, 50 S12, 51 S13, 52 S14, 53 S15, 54 S16, 55 S17, 56 S18, 57 S19, 58 S20, 59 S21, 60 S22, 61 S23, 62 S24, 63 S25, 64 S26, 65 S27, 66 S28, 67 S29, 68 S30, 69 S31, 70 S32, 71 PC0/S33, 72 PC1/S34, 73 PC2/S35, 74 PC3/S36, 75 PC4/S37, 76 PC5/S38, 77 PC6/S39, 78 PC7/S40, 79 S41, 80 S42

## ST6220D
designator MICOM?  Part No.: {Part No}  (hidden comment: ST6220D)
Price: {Price}
footprint DIP20
pins: 1 VDD (power), 2 TIMER, 3 XIN, 4 XOUT, 5 NMI, 6 TEST, 7 ~{RESET}, 8 PB7, 9 PB6, 10 PB5, 11 PB4, 12 PB3, 13 PB2, 14 PB1, 15 PB0, 16 PA3, 17 PA2, 18 PA1, 19 PA0, 20 GND (power)

## ST6225D_A
designator MICOM?  Part No.: {Part No}  (hidden comment: ST6225D_A)
Price: {Price}
footprint DIP28
pins: 1 VDD, 2 TIMER, 3 XIN, 4 XOUT, 5 NMI, 6 PC7/Ain, 7 PC6/Ain, 8 PC5/Ain, 9 PC4/Ain, 10 Vpp, 11 ~{RESET}, 12 PB7/Ain, 13 PB6/Ain, 14 PB5/Ain, 15 PB4/Ain, 16 PB3/Ain, 17 PB2/Ain, 18 PB1/Ain, 19 PB0/Ain, 20 PA7/Ain, 21 PA6/Ain, 22 PA5/Ain, 23 PA4/Ain, 24 PA3/20mA_S, 25 PA2/20mA_S, 26 PA1/20mA_S, 27 PA0/20mA_S, 28 Vss

## ST6225SO
designator MICOM?  Part No.: {Part No}  (hidden comment: ST6225SO)
Price: {Price}
footprint SO-28W
pins: 1 VDD, 2 TIMER, 3 XIN, 4 XOUT, 5 NMI, 6 PC7, 7 PC6, 8 PC5, 9 PC4, 10 TEST, 11 ~{RESET}, 12 PB7, 13 PB6, 14 PB5, 15 PB4, 16 PB3, 17 PB2, 18 PB1, 19 PB0, 20 PA7, 21 PA6, 22 PA5, 23 PA4, 24 PA3, 25 PA2, 26 PA1, 27 PA0, 28 GND

## ST6232
designator U?  Part No.: {Part No}  (hidden comment: ST6232)
Price: {Price}
footprint ST6232
pins: 1 PE4, 2 PE3, 3 PE2, 4 PE1, 5 PE0, 6 OSCin, 7 OSCout, 8 PC7/Ain, 9 PC6/Ain, 10 PC5/Ain, 11 Vssp, 12 Vddp, 13 VSS, 14 VDD, 15 TEST/Vpp, 16 ~{RESET}, 17 PB7/Ain, 18 PB6/Ain, 19 PB5/Ain, 20 PB4/Ain, 21 PB3/Ain, 22 PB0/Ain, 23 PD7/Ain, 24 PD6/Ain, 25 PD5/Ain/TXD1, 26 PD4/Ain/RXD1, 27 PD3/Ain/Sout, 28 PD2/Ain/Sin, 29 PD1/Ain/SCL, 30 PD0/Ain, 31 AVdd, 32 AVss, 33 NMI, 34 TIMER, 35 PA7/Ain, 36 PA6/Ain, 37 PA5/Ain/CP1, 38 PA4/Ain/CP1, 39 PA3/PWM, 40 PA2/OVF, 41 PA1, 42 PA0

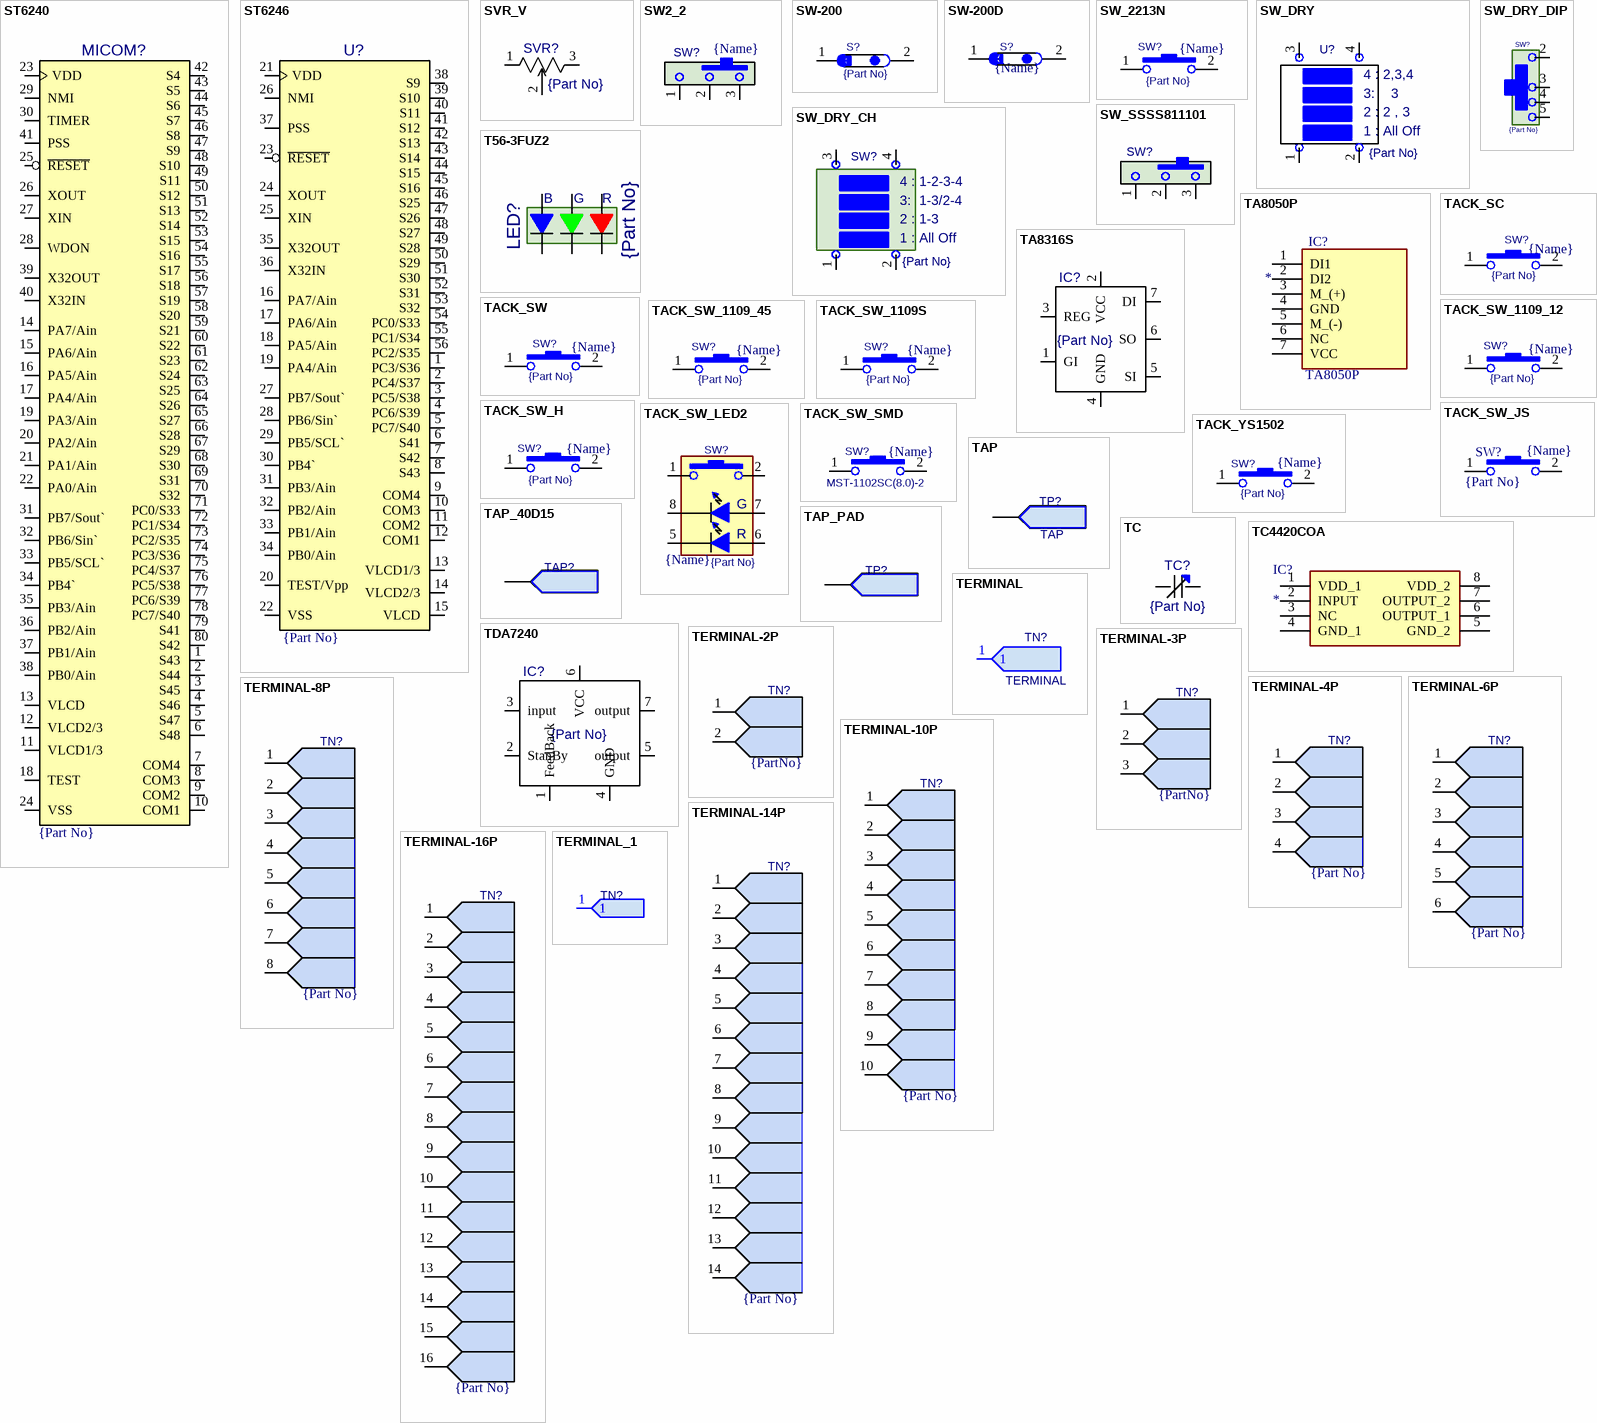
[diagram p15: symbols ST6240 to TERMINAL_1]

## ST6240
designator MICOM?  Part No.: {Part No}  (hidden comment: ST6240)
Price: {Price}
footprint QFP80
pins: 1 S43, 2 S44, 3 S45, 4 S46, 5 S47, 6 S48, 7 COM4, 8 COM3, 9 COM2, 10 COM1, 11 VLCD1/3, 12 VLCD2/3, 13 VLCD, 14 PA7/Ain, 15 PA6/Ain, 16 PA5/Ain, 17 PA4/Ain, 18 TEST, 19 PA3/Ain, 20 PA2/Ain, 21 PA1/Ain, 22 PA0/Ain, 23 VDD, 24 VSS, 25 ~{RESET}, 26 XOUT, 27 XIN, 28 WDON, 29 NMI, 30 TIMER, 31 PB7/Sout`, 32 PB6/Sin`, 33 PB5/SCL`, 34 PB4`, 35 PB3/Ain, 36 PB2/Ain, 37 PB1/Ain, 38 PB0/Ain, 39 X32OUT, 40 X32IN, 41 PSS, 42 S4, 43 S5, 44 S6, 45 S7, 46 S8, 47 S9, 48 S10, 49 S11, 50 S12, 51 S13, 52 S14, 53 S15, 54 S16, 55 S17, 56 S18, 57 S19, 58 S20, 59 S21, 60 S22, 61 S23, 62 S24, 63 S25, 64 S26, 65 S27, 66 S28, 67 S29, 68 S30, 69 S31, 70 S32, 71 PC0/S33, 72 PC1/S34, 73 PC2/S35, 74 PC3/S36, 75 PC4/S37, 76 PC5/S38, 77 PC6/S39, 78 PC7/S40, 79 S41, 80 S42

## ST6246
designator U?  Part No.: {Part No}  (hidden comment: ST6246)
Price: {Price}
footprint DIP56
pins: 1 PC3/S36, 2 PC4/S37, 3 PC5/S38, 4 PC6/S39, 5 PC7/S40, 6 S41, 7 S42, 8 S43, 9 COM4, 10 COM3, 11 COM2, 12 COM1, 13 VLCD1/3, 14 VLCD2/3, 15 VLCD, 16 PA7/Ain, 17 PA6/Ain, 18 PA5/Ain, 19 PA4/Ain, 20 TEST/Vpp, 21 VDD, 22 VSS, 23 ~{RESET}, 24 XOUT, 25 XIN, 26 NMI, 27 PB7/Sout`, 28 PB6/Sin`, 29 PB5/SCL`, 30 PB4`, 31 PB3/Ain, 32 PB2/Ain, 33 PB1/Ain, 34 PB0/Ain, 35 X32OUT, 36 X32IN, 37 PSS, 38 S9, 39 S10, 40 S11, 41 S12, 42 S13, 43 S14, 44 S15, 45 S16, 46 S25, 47 S26, 48 S27, 49 S28, 50 S29, 51 S30, 52 S31, 53 S32, 54 PC0/S33, 55 PC1/S34, 56 PC2/S35

## SVR_V
designator SVR?  Part No.: {Part No}  (hidden comment: SVR_V)
Price: {Price}
footprint SVR_V
pins: 1, 2, 3

## SW2_2
designator SW?  Name: {Name}  (hidden comment: SW2_2)
Part No.: {Part No}; Price: {Price}
footprint SW_SSSS8
pins: 1, 2, 3, 4 hidden, 5 hidden

## SW-200
designator S?  Part No.: {Part No}  (hidden comment: SW-200)
Price: {Price}
footprint SW-200
pins: 1, 2

## SW-200D
designator S?  Name: {Name}  (hidden comment: SW-200D)
Part No.: {Part No}; Price: {Price}
footprint SW-200D
pins: 1, 2

## SW_2213N
designator SW?  Part No.: {Part No}  Name: {Name}  (hidden comment: SW_2213N)
Price: {Price}
footprint SW_2213N
pins: 1, 2, 3 hidden, 4 hidden, 5 hidden, 6 hidden

## SW_DRY
designator U?  Part No.: {Part No}  (hidden comment: SW_DRY)
Price: {Price}
pins: 1, 2, 3, 4
text: 4 : 2,3,4; 3:    3; 2 : 2 , 3; 1 : All Off

## SW_DRY_CH
designator SW?  Part No.: {Part No}  (hidden comment: SW_DRY_CH)
Price: {Price}
pins: 1, 2, 3, 4
text: 4 : 1-2-3-4; 3:  1-3/2-4; 2 : 1-3; 1 : All Off

## SW_DRY_DIP
designator SW?  Part No.: {Part No}  (hidden comment: SW_DRY_DIP)
Price: {Price}
footprint SW_DRY
pins: 1 hidden, 2, 3, 4, 5, 6 hidden

## SW_SSSS811101
designator SW?  (value not drawn)
Part No.: {Part No}; Price: {Price}
footprint SW_SSSS8
pins: 1, 2, 3

## T56-3FUZ2
designator LED?  Part No.: {Part No}  (hidden comment: T56-3FUZ2)
Price: {Price}
footprint T56-LED
pins: 1, 2, 3, 4, 5, 6
text: B; G; R

## TA8050P
designator IC?  Part No.: TA8050P
Integrated Circuit; Manufacturer_Name: Toshiba; Datasheet Link: https://datasheet.datasheetarchive.com/originals/distributors/Datasheets-39/DSA-763557.pdf; Height: 3.2mm; Price: {Price}
footprint TO254P320X1700X1640-7P
pins: 1 DI1, 2 DI2, 3 M_(+), 4 GND, 5 M_(-), 6 NC, 7 VCC

## TA8316S
designator IC?  Part No.: {Part No}  (hidden comment: TA8316S)
Price: {Price}
footprint SIP7
pins: 1 GI, 2 VCC, 3 REG, 4 GND, 5 SI, 6 SO, 7 DI

## TACK_SC
designator SW?  Name: {Name}  Part No.: {Part No}  (hidden comment: TACK_SC)
Price: {Price}
footprint TACK_SC
pins: 1, 2

## TACK_SW
designator SW?  Name: {Name}  Part No.: {Part No}  (hidden comment: TACK_SW)
Price: *
footprint TACK_SW
pins: 1, 2, 3 hidden, 4 hidden

## TACK_SW_1109_12
designator SW?, comment Name: {Name}  Part No.: {Part No}  (hidden comment: TACK_SW_1109_45)
Price: {Price}
footprint TACK_SW_SMD _12
pins: 1, 2, 3 hidden, 4 hidden

## TACK_SW_1109_45
designator SW?  Name: {Name}  Part No.: {Part No}  (hidden comment: TACK_SW_1109_45)
Price: {Price}
footprint TACT_SW_1109_45
pins: 1, 2, 3 hidden, 4 hidden

## TACK_SW_1109S
designator SW?  Name: {Name}  Part No.: {Part No}  (hidden comment: TACK_SW_1109S)
Price: {Price}
footprint TACK_SW_1109S
pins: 1, 2, 3 hidden, 4 hidden

## TACK_SW_H
designator SW?  Name: {Name}  Part No.: {Part No}  (hidden comment: TACK_SW_H)
Price: {Price}
footprint TACK_SW_H
pins: 1, 2

## TACK_SW_JS
designator SW?  Name: {Name}  Part No.: {Part No}  (hidden comment: *)
Price: {Price}
footprint TACK_SW_JS
pins: 1 hidden, 1, 2 hidden, 2, 3 hidden, 4 hidden, 5 hidden, 6 hidden, 7 hidden, 8 hidden

## TACK_SW_LED2
designator SW?  Name: {Name}  Part No.: {Part No}  (hidden comment: TACK_SW_LED2)
Price: {Price}
footprint TACK_SW_LED2
pins: 1, 2, 3 hidden, 4 hidden, 5, 6, 7, 8
text: G; R

## TACK_SW_SMD
designator SW?  Name: {Name}  Part No.: MST-1102SC(8.0)-2  (hidden comment: TACK_SW_SMD)
Price: 42
footprint TACK_SW_SMD
pins: 1, 2, 3 hidden, 4 hidden

## TACK_YS1502
designator SW?  Name: {Name}  Part No.: {Part No}  (hidden comment: TACK_YS1502)
Price: {Price}
footprint YS1502
pins: 1, 2

## TAP
designator TP?
Part No.: *; Price: {Price}; Name: *
footprint TAP
pins: 1

## TAP_40D15
designator TAP?  (value not drawn)
Part No.: {Part No}; Name: *; Price: {Price}
footprint TAP40D15
pins: 1

## TAP_PAD
designator TP?  (value not drawn)
Part No.: {Part No}; Price: {Price}; Name: *
footprint TAP_R
pins: 1

## TC
designator TC?  Part No.: {Part No}  (hidden comment: TC)
Price: {Price}
footprint TC_SMD
pins: 1, 2

## TC4420COA
designator IC?
Integrated Circuit; Manufacturer_Name: Microchip; Manufacturer_Part_Number: TC4420COA; Datasheet Link: http://ww1.microchip.com/downloads/en/DeviceDoc/21419D.pdf; Height: 1.75mm; Mouser Part Number: 579-TC4420COA; Mouser Price/Stock: https://www.mouser.co.uk/ProductDetail/Microchip-Technology/TC4420COA?qs=9y3LFqDLL8K9%2FXvKv6fykg%3D%3D; Arrow Part Number: TC4420COA; Arrow Price/Stock: https://www.arrow.com/en/products/tc4420coa/microchip-technology?utm_currency=USD&region=nac
footprint SOIC127P600X175-8N
pins: 1 VDD_1, 2 INPUT, 3 NC, 4 GND_1, 5 GND_2, 6 OUTPUT_1, 7 OUTPUT_2, 8 VDD_2

## TDA7240
designator IC?  Part No.: {Part No}  (hidden comment: TDA7240)
Price: *
footprint HEPTAWATT_V
pins: 1 FeedBack, 2 StanBy, 3 input, 4 GND, 5 output, 6 VCC, 7 output

## TERMINAL
designator TN?
Value: *; Price: {Price}; Name: *
footprint TMN_25X40
pins: 1

## TERMINAL-2P
designator TN?, comment Part No.: {PartNo}  (hidden comment: TERMINAL-2PIN)
Price: {Price}
footprint TERMINAL_10_2
pins: 1, 2

## TERMINAL-3P
designator TN?, comment Part No.: {PartNo}  (hidden comment: TERMINAL-2PIN)
Price: {Price}
footprint TERMINAL_10_3
pins: 1, 2, 3

## TERMINAL-4P
designator TN?, comment Part No.: {Part No}  (hidden comment: TERMINAL-4PIN)
Price: {Price}
footprint YW396_02
pins: 1, 2, 3, 4

## TERMINAL-6P
designator TN?, comment Part No.: {Part No}  (hidden comment: TERMINAL-6PIN)
Price: {Price}
footprint YW396_02
pins: 1, 2, 3, 4, 5, 6

## TERMINAL-8P
designator TN?, comment Part No.: {Part No}  (hidden comment: TERMINAL-8PIN)
Price: {Price}
footprint YW396_02
pins: 1, 2, 3, 4, 5, 6, 7, 8

## TERMINAL-10P
designator TN?, comment Part No.: {Part No}  (hidden comment: TERMINAL-10PIN)
Price: {Price}
pins: 1, 2, 3, 4, 5, 6, 7, 8, 9, 10

## TERMINAL-14P
designator TN?, comment Part No.: {Part No}  (hidden comment: TERMINAL-10PIN)
Price: {Price}
footprint TERMINAL_10_14
pins: 1, 2, 3, 4, 5, 6, 7, 8, 9, 10, 11, 12, 13, 14

## TERMINAL-16P
designator TN?, comment Part No.: {Part No}  (hidden comment: TERMINAL-10PIN)
Price: {Price}
footprint TERMINAL_10_16
footprint TERMINAL_13_16
pins: 1, 2, 3, 4, 5, 6, 7, 8, 9, 10, 11, 12, 13, 14, 15, 16

## TERMINAL_1
designator TN?, comment TERMINAL  (value not drawn)
Value: *; Name: *
footprint TERMINAL_h10
footprint TERMINAL_h13
footprint TERMINAL_h15
footprint TERMINAL_h18
footprint TERMINAL_h20
footprint TERMINAL_h23
footprint TERMINAL_h25
footprint TERMINAL_h12
pins: 1

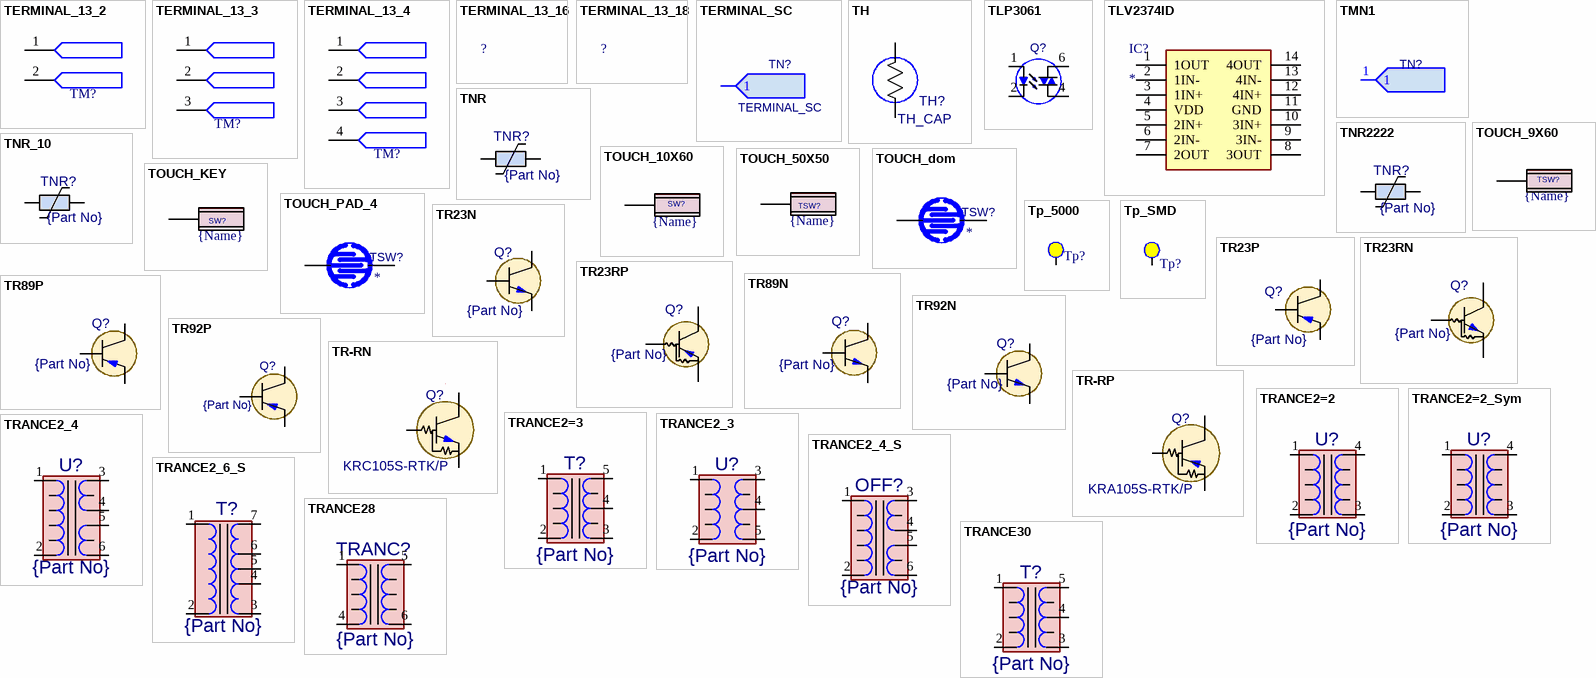
[diagram p16: symbols TERMINAL_13_2 to TRANCE30]

## TERMINAL_13_2
designator TM?  (value not drawn)
Part No.: *; Name: *; Price: {Price}
footprint TERMINAL_13_2
pins: 1 hidden, 1, 2 hidden, 2, 3 hidden

## TERMINAL_13_3
designator TM?  (value not drawn)
Part No.: *; Name: *; Price: {Price}
footprint TERMINAL_13_3
pins: 1 hidden, 1, 2 hidden, 2, 3 hidden, 3

## TERMINAL_13_4
designator TM?  (value not drawn)
Part No.: *; Name: *; Price: {Price}
footprint TERMINAL_13_4
pins: 1 hidden, 1, 2 hidden, 2, 3 hidden, 3, 4

## TERMINAL_13_16
designator ?  (value not drawn)
Part No.: *; Name: *; Price: {Price}
footprint TERMINAL_13_16
pins: 1 hidden, 2 hidden, 3 hidden, 4 hidden, 5 hidden, 6 hidden, 7 hidden, 8 hidden, 9 hidden, 10 hidden, 11 hidden, 12 hidden, 13 hidden, 14 hidden, 15 hidden, 16 hidden

## TERMINAL_13_18
designator ?  (value not drawn)
Part No.: *; Name: *; Price: {Price}
footprint TERMINAL_13_18
pins: 1 hidden, 2 hidden, 3 hidden, 4 hidden, 5 hidden, 6 hidden, 7 hidden, 8 hidden, 9 hidden, 10 hidden, 11 hidden, 12 hidden, 13 hidden, 14 hidden, 15 hidden, 16 hidden, 17 hidden, 18 hidden

## TERMINAL_SC
designator TN?
Part No.: *; Price: {Price}; Name: *
footprint TMN_20X40
pins: 1

## TH
designator TH?, comment TH_CAP  (graphical)
dd-204j; Part No.: DD204J-4200; Value: NET00031; Price: 120
pins: 1, 2

## TLP3061
designator Q?  (value not drawn)
Part No.: {Part No}; Parameter 1: Price
footprint DIP6
pins: 1, 2, 3 hidden, 4, 5 hidden, 6

## TLV2374ID
designator IC?
Integrated Circuit; Manufacturer_Name: Texas Instruments; Manufacturer_Part_Number: TLV2374ID; Datasheet Link: http://www.ti.com/lit/ds/symlink/tlv2374.pdf; Height: 1.75mm; Mouser Part Number: 595-TLV2374ID; Mouser Price/Stock: https://www.mouser.co.uk/ProductDetail/Texas-Instruments/TLV2374ID?qs=Fg5TsMy7H4s4b5JQ7ZlKsQ%3D%3D; Arrow Part Number: TLV2374ID; Arrow Price/Stock: https://www.arrow.com/en/products/tlv2374id/texas-instruments?utm_currency=USD&region=nac
footprint SOIC127P600X175-14N
pins: 1 1OUT, 2 1IN-, 3 1IN+, 4 VDD, 5 2IN+, 6 2IN-, 7 2OUT, 8 3OUT, 9 3IN-, 10 3IN+, 11 GND, 12 4IN+, 13 4IN-, 14 4OUT

## TMN1
designator TN?  (value not drawn)
Part No.: *
footprint TMN_25X40
pins: 1

## TNR
designator TNR?  Part No.: {Part No}  (hidden comment: TNR)
Price: {Price}
footprint TNR
pins: 1, 2

## TNR2222
designator TNR?  Part No.: {Part No}  (hidden comment: TNR2222)
Price: {Price}
footprint TNR2222
pins: 1, 2

## TNR_10
designator TNR?  Part No.: {Part No}  (hidden comment: TNR_10)
Price: {Price}
footprint TNR_10
pins: 1, 2

## TOUCH_9X60
designator TSW?  Name: {Name}  (hidden comment: TOUCH_9X60)
footprint TOUCH_KEY_9*60
pins: 1

## TOUCH_10X60
designator SW?  Name: {Name}  (hidden comment: TOUCH_10X60)
footprint TOUCH_KEY_10*60
pins: 1

## TOUCH_50X50
designator TSW?  Name: {Name}  (hidden comment: TOUCH_50X50)
Price: {Price}
footprint TOUCH_KEY_50X50
pins: 1

## TOUCH_dom
designator TSW?, comment touch sw dom  (value not drawn)
Name: *
footprint Touch_dom
pins: 1, 2

## TOUCH_KEY
designator SW?  Name: {Name}  (hidden comment: TOUCH_KEY)
footprint TOUCH_KEY
pins: 1

## TOUCH_PAD_4
designator TSW?  (value not drawn)
Name: *
footprint TOUCH_KEY_4
pins: 1, 2

## Tp_5000
designator Tp?, comment Test Point_top  (value not drawn)
Pad30; Part No.: *
footprint TP_KEYSTONE_5000
pins: 1 tp "1"

## Tp_SMD
designator Tp?, comment Test Point_top  (value not drawn)
Pad30; Part No.: *
footprint pad30
pins: tp? tp

## TR23N
designator Q?  Part No.: {Part No}  (hidden comment: TR23N)
Price: {Price}
footprint SOT-23
pins: 1 B, 2 E, 3 C

## TR23P
designator Q?  Part No.: {Part No}  (hidden comment: TR23P)
Price: {Price}
footprint SOT-23
pins: 1 B, 2 E, 3 C

## TR23RN
designator Q?  Part No.: {Part No}  (hidden comment: TR23RN)
Price: {Price}
footprint SOT-23
pins: 1 B, 2 E, 3 C

## TR23RP
designator Q?  Part No.: {Part No}  (hidden comment: TR23RP)
Price: {Price}
footprint SOT-23
pins: 1 B, 2 E, 3 C

## TR89N
designator Q?  Part No.: {Part No}  (hidden comment: TR89N)
Price: {Price}
footprint SOT-89
pins: 1 B, 2 C, 3 E, 4 hidden

## TR89P
designator Q?  Part No.: {Part No}  (hidden comment: TR89P)
Price: {Price}
footprint SOT-89
pins: 1 B, 2 C, 3 E, 4 hidden

## TR92N
designator Q?  Part No.: {Part No}  (hidden comment: TR92N)
Price: {Price}
footprint TO92
pins: 1 E, 2 C, 3 B

## TR92P
designator Q?  Part No.: {Part No}  (hidden comment: TR92P)
Price: {Price}
footprint TO92
pins: 1 E, 2 C, 3 B

## TR-RN
designator Q?  Part No.: KRC105S-RTK/P  (hidden comment: TR-RN)
Price: 12
footprint SOT-23
pins: 1 B, 2 E, 3 C

## TR-RP
designator Q?  Part No.: KRA105S-RTK/P  (hidden comment: TR-RP)
Price: 12
footprint SOT-23
pins: 1 B, 2 E, 3 C

## TRANCE2=2
designator U?  Part No.: {Part No}  (hidden comment: TRANCE2=2)
Price: {Price}
footprint TRANCE_SK
pins: 1, 2, 3, 4, 5 hidden

## TRANCE2=2_Sym
designator U?, comment Part No.: {Part No}  (hidden comment: TRANCE2=2)
Price: {Price}
pins: 1, 2, 3, 4, 5 hidden

## TRANCE2=3
designator T?  Part No.: {Part No}  (hidden comment: TRANCE2=3)
Price: {Price}
footprint TRANCE_BS
pins: 1, 2, 3, 4, 5, 6 hidden, 7 hidden, 8 hidden

## TRANCE2_3
designator U?  value {Part No}  (hidden comment: TRANCE2_3)
Price: {Price}
pins: 1, 2, 3, 4, 5

## TRANCE2_4
designator U?  Part No.: {Part No}  (hidden comment: TRANCE2_4)
Price: {Price}
pins: 1, 2, 3, 4, 5, 6

## TRANCE2_4_S
designator OFF?  Part No.: {Part No}  (hidden comment: TRANCE2_4_S)
Price: {Price}
pins: 1, 2, 3, 4, 5, 6

## TRANCE2_6_S
designator T?  Part No.: {Part No}  (hidden comment: TRANCE2_6_S)
Price: {Price}
footprint TRANCE25MM
pins: 1, 2, 3, 4, 5, 6, 7, 8 hidden

## TRANCE28
designator TRANC?  Part No.: {Part No}  (hidden comment: TRANCE28)
Price: {Price}
footprint TRANCE28MM
pins: 1, 2 hidden, 3 hidden, 4, 5, 6

## TRANCE30
designator T?  Part No.: {Part No}  (hidden comment: TRANCE30)
Price: {Price}
footprint TRANCE30
pins: 1 AC, 2 AC, 3, 4, 5

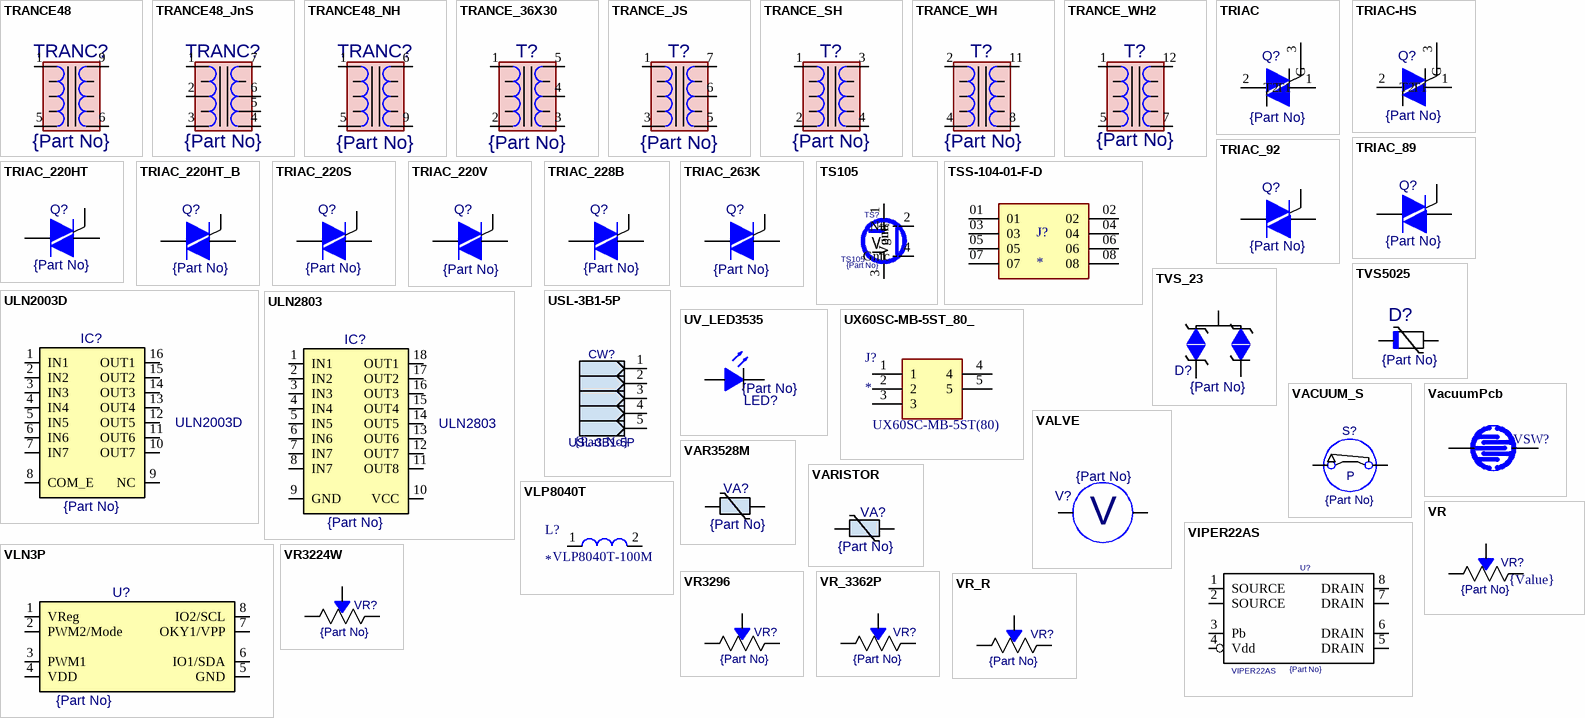
[diagram p17: symbols TRANCE48 to VR_R]

## TRANCE48
designator TRANC?  Part No.: {Part No}  (hidden comment: TRANCE48)
Price: {Price}
footprint TRANCE48MM_F
pins: 1, 2 hidden, 3 hidden, 4 hidden, 5, 6, 7 hidden, 8 hidden, 9

## TRANCE48_JnS
designator TRANC?, comment Part No.: {Part No}  (hidden comment: TRANCE48)
Price: {Price}
footprint TRANCE48MM_JnS
pins: 1, 2 hidden, 2, 3 hidden, 3, 4 hidden, 4, 5, 6, 7 hidden, 7, 8 hidden

## TRANCE48_NH
designator TRANC?  Part No.: {Part No}  (hidden comment: TRANCE48_NH)
Price: {Price}
footprint TRANCE48
pins: 1, 2 hidden, 3 hidden, 4 hidden, 5, 6, 7 hidden, 8 hidden, 9

## TRANCE_36X30
designator T?  Part No.: {Part No}  (hidden comment: TRANCE_36X30)
Price: {Price}
footprint TRANCE_36X30
pins: 1, 2, 3, 4, 5

## TRANCE_JS
designator T?  Part No.: {Part No}  (hidden comment: TRANCE_JS)
Price: {Price}
footprint TRANCE_JS
pins: 1, 2 hidden, 3, 4 hidden, 5, 6, 7, 8 hidden, 9 hidden

## TRANCE_SH
designator T?  Part No.: {Part No}  (hidden comment: TRANCE_SH)
Price: {Price}
footprint TRANCE_SH
pins: 1, 2, 3, 4

## TRANCE_WH
designator T?  Part No.: {Part No}  (hidden comment: TRANCE_WH)
Price: {Price}
footprint TRANCE_WH
pins: 1 hidden, 2 1, 3 hidden, 4 2, 5 hidden, 6 hidden, 7 hidden, 8 3, 9 hidden, 10 hidden, 11 4, 12 hidden, 13 hidden

## TRANCE_WH2
designator T?  Part No.: {Part No}  (hidden comment: TRANCE_WH2)
Price: {Price}
footprint TRANCE_WH
pins: 1, 2 hidden, 3 hidden, 4 hidden, 5 2, 6 hidden, 7 3, 8 hidden, 9 hidden, 10 hidden, 11 hidden, 12 4, 13 hidden

## TRIAC
designator Q?  value {Part No}  (hidden comment: TRIAC)
Price: {Price}
footprint TO-228
pins: 1 T1, 2 T2, 3 G

## TRIAC-HS
designator Q?  Part No.: {Part No}  (hidden comment: TRIAC-HS)
Price: {Price}
footprint TRIAC_HS
pins: 1 T1, 2 T2, 3 G

## TRIAC_89
designator Q?, comment Part No.: {Part No}  (hidden comment: TRIAC92)
Price: {Price}
footprint SOT-89
pins: 1 T1, 2 G, 3 T2

## TRIAC_92
designator Q?, comment Part No.: {Part No}  (hidden comment: TRIAC92)
Price: {Price}
footprint TO92
pins: 1 T1, 2 G, 3 T2

## TRIAC_220HT
designator Q?  Part No.: {Part No}  (hidden comment: TRIAC_220HT)
Price: {Price}
footprint TO-220-HT
pins: 1 T1, 2 T2, 3 G

## TRIAC_220HT_B
designator Q?  Part No.: {Part No}  (hidden comment: TRIAC_220HT_B)
Price: {Price}
footprint TO-220-HT_B
pins: 1 T1, 2 T2, 3 G

## TRIAC_220S
designator Q?  Part No.: {Part No}  (hidden comment: TRIAC_220S)
Price: {Price}
footprint TO-220S
pins: 1 T1, 2 T2, 3 G

## TRIAC_220V
designator Q?  Part No.: {Part No}  (hidden comment: TRIAC_220V)
Price: {Price}
footprint TO-220V
pins: 1 T1, 2 T2, 3 G, 4 hidden

## TRIAC_228B
designator Q?  Part No.: {Part No}  (hidden comment: TRIAC_228B)
Price: {Price}
footprint TO-228B
pins: 1 T1, 2 T2, 3 G

## TRIAC_263K
designator Q?  Part No.: {Part No}  (hidden comment: TRIAC_263K)
Price: {Price}
footprint TO-263K
pins: 1 T1, 2 T2, 3 G

## TS105
designator TS?  Part No.: {Part No}
Price: {Price}
footprint IR
pins: 1 Vout, 2 Ntc, 3 Vgnd, 4 Gntc

## TSS-104-01-F-D
designator J?
MP: TSS-104-01-F-D; Package: None; Price: None; Value: *; Availability: Unavailable
footprint SAMTEC_TSS-104-01-F-D
pins: 01, 02, 03, 04, 05, 06, 07, 08

## TVS5025
designator D?  Part No.: {Part No}  (hidden comment: TVS5025)
Price: {Price}
footprint TVS5025
pins: 1, 2

## TVS_23
designator D?, comment Part No.: {Part No}  (hidden comment: TVS5025)
Price: {Price}
footprint SOT95P240X115-3N
pins: 1, 2, 3

## ULN2003D
designator IC?  Part No.: {Part No}
Seven Darlington Array; ComponentField7: Published 8-Jun-2000.; OriginalName: ULN2003D; Price: {Price}
footprint DIP16
pins: 1 IN1, 2 IN2, 3 IN3, 4 IN4, 5 IN5, 6 IN6, 7 IN7, 8 COM_E, 9 NC, 10 OUT7, 11 OUT6, 12 OUT5, 13 OUT4, 14 OUT3, 15 OUT2, 16 OUT1

## ULN2803
designator IC?  Part No.: {Part No}
Seven Darlington Array; OriginalName: ULN2003D; ComponentField7: Published 8-Jun-2000.; Price: {Price}
footprint DIP18
pins: 1 IN1, 2 IN2, 3 IN3, 4 IN4, 5 IN5, 6 IN6, 7 IN7, 8 IN7, 9 GND, 10 VCC, 11 OUT8, 12 OUT7, 13 OUT6, 14 OUT5, 15 OUT4, 16 OUT3, 17 OUT2, 18 OUT1

## USL-3B1-5P
designator CW?  Part No.: {Part No}
Price: {Price}
footprint USL-3VB1
pins: 1, 2, 3, 4, 5

## UV_LED3535
designator LED?  Part No.: {Part No}  (hidden comment: UV_LED3535)
Price: {Price}
footprint UV_LED3535
pins: 1, 2

## UX60SC-MB-5ST_80_
designator J?  Part No.: UX60SC-MB-5ST(80)
Connector; Manufacturer_Name: Hirose; Datasheet Link: https://datasheet.datasheetarchive.com/originals/distributors/SFDatasheet-7/sf-000141445.pdf; Mouser Part Number: 798-UX60SC-MB-5ST80; Mouser Price/Stock: https://www.mouser.co.uk/ProductDetail/Hirose-Connector/UX60SC-MB-5ST80?qs=yQ4lPMPRQIr3cbvyi2h1%2FA%3D%3D; Arrow Part Number: UX60SC-MB-5ST(80); Arrow Price/Stock: https://www.arrow.com/en/products/ux60sc-mb-5st-80/hirose-electric; Price: {Price}
footprint UX60SC-MB-5ST
pins: 1, 2, 3, 4, 5

## VACUUM_S
designator S?  Part No.: {Part No}  (hidden comment: VACUUM_S)
Price: {Price}
footprint VACUUM_S
pins: 1, 2
text: P

## VacuumPcb
designator VSW?, comment Vacuum Sw  (value not drawn)
Part No.: {Part No}; Price: *; Name: *
footprint VACUUM_S_JS
pins: 1, 2

## VALVE
designator V?, comment Part No.: {Part No}  (hidden comment: MOTOR_3S)
Price: {Price}
pins: 1 R, 3 T
text: V

## VAR3528M
designator VA?  Part No.: {Part No}  (hidden comment: VAR3528M)
Price: {Price}
footprint CT3528M
pins: 1, 2

## VARISTOR
designator VA?  Part No.: {Part No}  (hidden comment: VARISTOR)
Price: {Price}
footprint TNR
pins: 1, 2

## VIPER22AS
designator U?  Part No.: {Part No}
EPROM-Based 8-Bit CMOS Microcontroller; OriginalName: PIC16C54-10/SO; ComponentField6: T0CKI (pin 3) must be tied to VSS or VDD, if not in use, to reduce current consumption; ComponentField7: Published 8-Jun-2000.; Price: {Price}
footprint SO8
pins: 1 SOURCE, 2 SOURCE, 3 Pb, 4 Vdd, 5 DRAIN, 6 DRAIN, 7 DRAIN, 8 DRAIN

## VLN3P
designator U?  Part No.: {Part No}  (hidden comment: VLN3P)
EPROM-Based 8-Bit CMOS Microcontroller; OriginalName: PIC16C54-10/SO; ComponentField6: T0CKI (pin 3) must be tied to VSS or VDD, if not in use, to reduce current consumption; ComponentField7: Published 8-Jun-2000.; Price: {Price}
footprint SO8
pins: 1 VReg, 2 PWM2/Mode, 3 PWM1, 4 VDD, 5 GND, 6 IO1/SDA, 7 OKY1/VPP, 8 IO2/SCL

## VLP8040T
designator L?  Part No.: VLP8040T-100M
Inductor; Manufacturer_Name: TDK; Mouser Part Number: 810-VLP8040T-100M; Mouser Price/Stock: https://www.mouser.co.uk/ProductDetail/TDK/VLP8040T-100M?qs=uxmvvYJjMIsKO4pNbUQWxA%3D%3D; Arrow Price/Stock: https://www.arrow.com/en/products/vlp8040t-100m/tdk; Datasheet Link: https://componentsearchengine.com/Datasheets/2/VLP8040T-100M.pdf; Height: 4mm; Manufacturer_Part_Number: VLP8040T-100M; Price: {Price}
footprint VLP8040T100M
pins: 1, 2

## VR
designator VR?  value {Value}  Part No.: {Part No}  (hidden comment: VR)
Price: {Price}
footprint VR_3362P
footprint VR3296
footprint VR_RV12H
pins: 1, 2, 3

## VR3224W
designator VR?  Part No.: {Part No}  (hidden comment: VR3224W)
Price: {Price}
footprint 3224W
pins: 1, 2, 3

## VR3296
designator VR?, comment Part No.: {Part No}  (hidden comment: VR3224W)
Price: {Price}
footprint VR3296
pins: 1, 2, 3

## VR_3362P
designator VR?, comment Part No.: {Part No}  (hidden comment: VR)
Price: {Price}
footprint VR_3362P
pins: 1, 2, 3

## VR_R
designator VR?  Part No.: {Part No}  (hidden comment: VR_R)
Price: {Price}
footprint VR_R
pins: 1, 2, 3

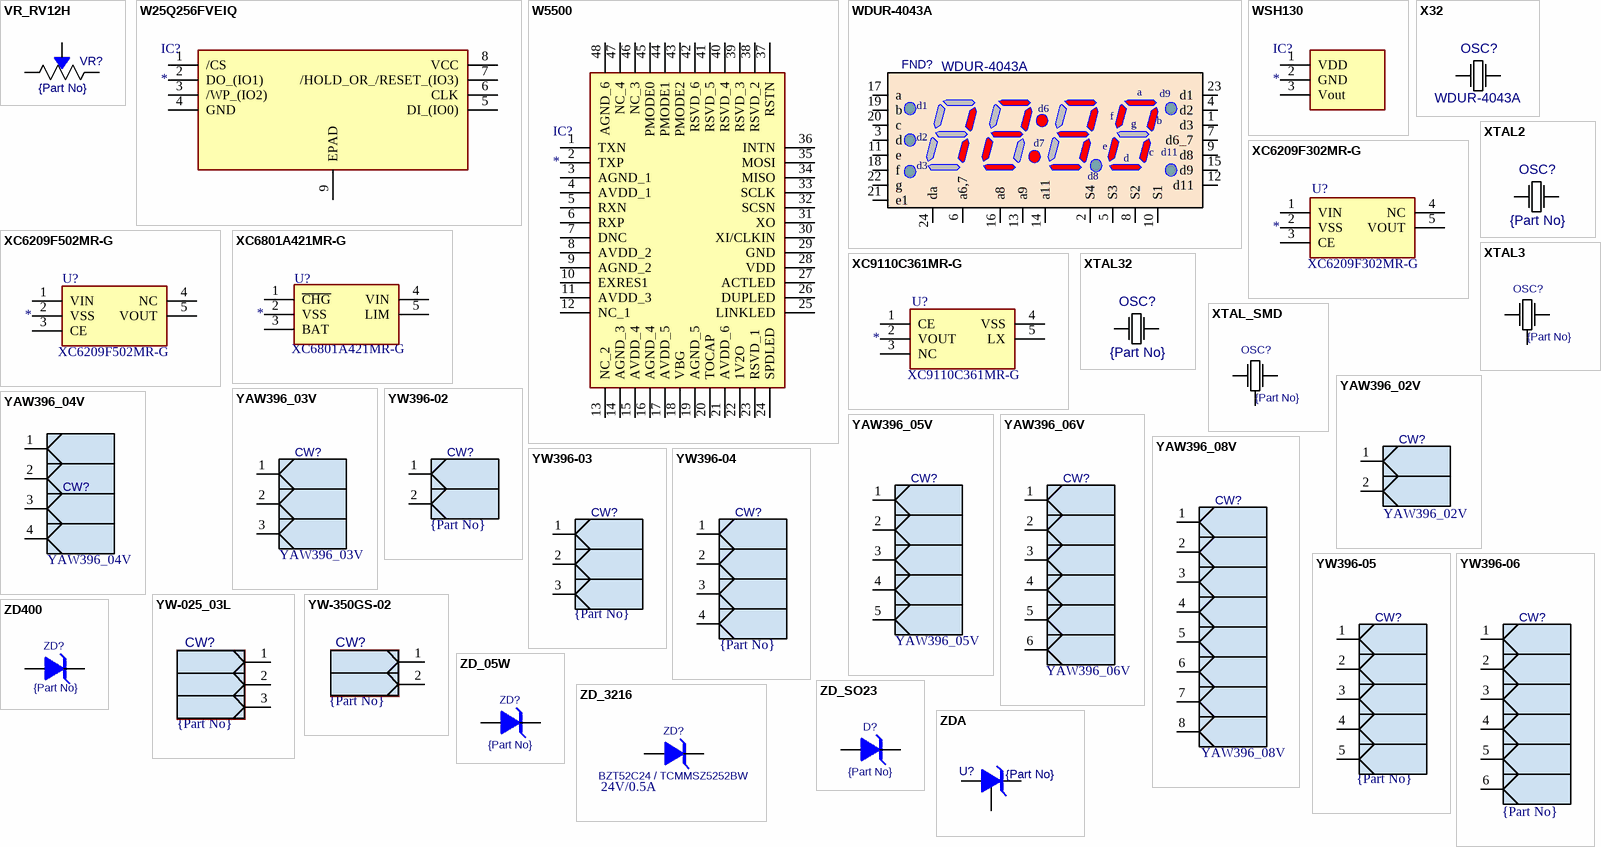
[diagram p18: symbols VR_RV12H to ZDA]

## VR_RV12H
designator VR?  Part No.: {Part No}  (hidden comment: VR_RV12H)
Price: {Price}
footprint VR_RV12H
pins: 1, 2, 3